# Altium schematic symbol library Schlib1.SchLib: 77 symbols (part 1 of 2)
Pins are listed as number, name and electrical type; pins without a type are passive.

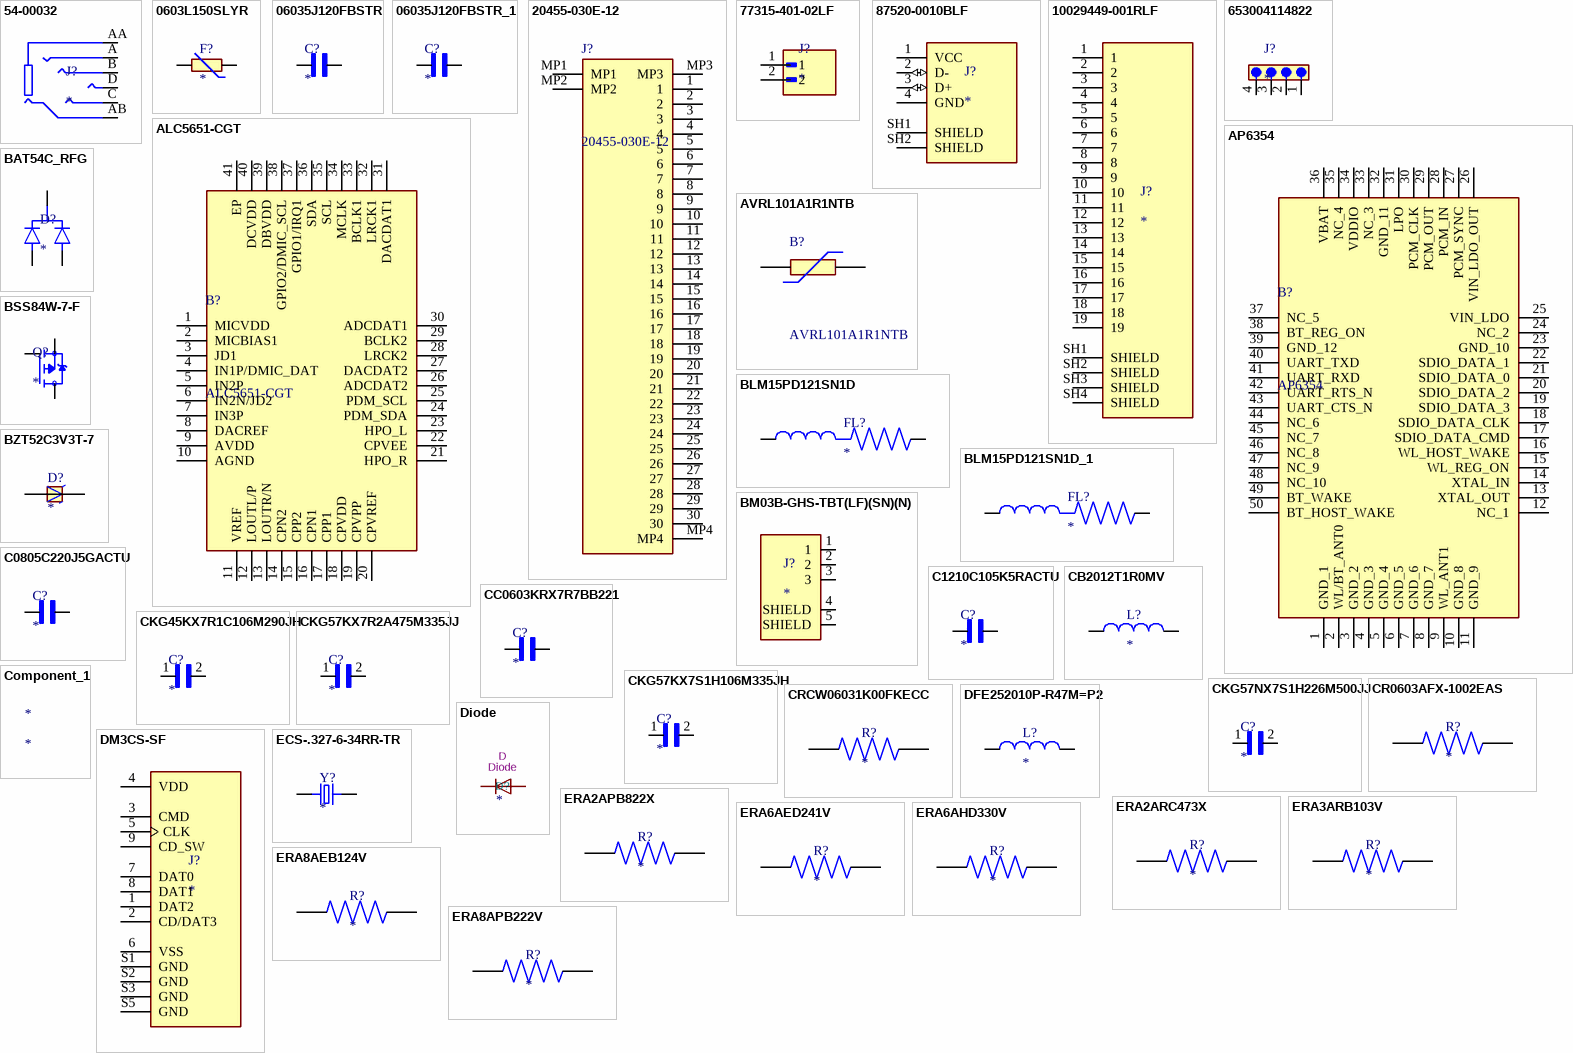
[diagram p0: symbols 54-00032 to ERA8APB222V]

## 54-00032
designator J?
Connector, 6C audio jack, 3.5xL18.6 mm, PCB mount, 90 degrees, Au plated; MF: Tensility International; MP: 54-00032; SnapEDA_Link: https://www.snapeda.com/parts/54-00032/Tensility+International+Corp/view-part/?ref=snap; Package: None; Value: *; Check_prices: https://www.snapeda.com/parts/54-00032/Tensility+International+Corp/view-part/?ref=eda
footprint TENSILITY_54-00032
pins: A, AA, AB, B, C, D

## 0603L150SLYR
designator F?
Polymeric PTC Resettable Fuse 6V 1.5 A Ih Surface Mount 0603 (1608 Metric), Concave; MF: Littelfuse Inc.; MP: 0603L150SLYR; SnapEDA_Link: https://www.snapeda.com/parts/0603L150SLYR/Littelfuse/view-part/?ref=snap; Package: 0603-2 LITTELFUSE; Value: *; Check_prices: https://www.snapeda.com/parts/0603L150SLYR/Littelfuse/view-part/?ref=eda
footprint FUSC1608X100N
pins: 1, 2

## 06035J120FBSTR
designator C?
12 pF Thin Film Capacitor 50 V 0603 (1608 Metric); MF: AVX; MP: 06035J120FBSTR; SnapEDA_Link: https://www.snapeda.com/parts/06035J120FBSTR/AVX/view-part/?ref=snap; Package: 0603-2 AVX; Value: *; Check_prices: https://www.snapeda.com/parts/06035J120FBSTR/AVX/view-part/?ref=eda
footprint CAPC1608X90
pins: 1, 2

## 06035J120FBSTR_1
designator C?
12 pF Thin Film Capacitor 50 V 0603 (1608 Metric); MF: AVX; MP: 06035J120FBSTR; SnapEDA_Link: https://www.snapeda.com/parts/06035J120FBSTR/AVX/view-part/?ref=snap; Package: 0603-2 AVX; Value: *; Check_prices: https://www.snapeda.com/parts/06035J120FBSTR/AVX/view-part/?ref=eda
footprint CAPC1608X90
pins: 1, 2

## 20455-030E-12
designator J?
Board Connector, 30 Contact(s), 1 Row(s), Female, Right Angle, Surface Mount Terminal, Receptacle; Manufacturer_Name: I-Pex; Geometry.Height: 1.1mm; Manufacturer_Part_Number: 20455-030E-12; Mouser Part Number: *; Mouser Price/Stock: *; Arrow Part Number: *; Arrow Price/Stock: *; Datasheet Link: https://www.datasheet5.com/part/20455-030E-12/I-PEX%20Co%20Ltd
footprint 20455030E12
pins: 1, 2, 3, 4, 5, 6, 7, 8, 9, 10, 11, 12, 13, 14, 15, 16, 17, 18, 19, 20, 21, 22, 23, 24, 25, 26, 27, 28, 29, 30, MP1, MP2, MP3, MP4

## 77315-401-02LF
designator J?
MP: 77315-401-02LF; Package: None; Price: None; Value: *; Availability: Unavailable
footprint AMPHENOL_77315-401-02LF
pins: 1, 2

## 87520-0010BLF
designator J?
Conn Data USB TypeA Socket 4Cnts RightAngle ThruHole White 1.57mmPCB | Amphenol FCI (Amphenol CS) 87520-0010BLF; MF: AMPHENOL ICC / FCI; SnapEDA_Link: https://www.snapeda.com/parts/87520-0010BLF/Amphenol/view-part/?ref=snap; Package: None; Value: *; MP: 87520-0010BLF; Check_prices: https://www.snapeda.com/parts/87520-0010BLF/Amphenol/view-part/?ref=eda
footprint AMPHENOL_87520-0010BLF
pins: 1 VCC (power), 2 D- (io), 3 D+ (io), 4 GND (power), SH1 SHIELD, SH2 SHIELD

## 10029449-001RLF
designator J?
MP: 10029449-001RLF; Package: None; Price: None; Value: *; Availability: Unavailable
footprint AMPHENOL_10029449-001RLF
pins: 1, 2, 3, 4, 5, 6, 7, 8, 9, 10, 11, 12, 13, 14, 15, 16, 17, 18, 19, SH1 SHIELD, SH2 SHIELD, SH3 SHIELD, SH4 SHIELD

## 653004114822
designator J?
CONN, HEADER, 4POS, 1ROW, 1.25MM ROHS COMPLIANT: YES; MF: WÃ¼rth Elektronik; MP: 653004114822; SnapEDA_Link: https://www.snapeda.com/parts/653004114822/W%25C3%25BCrth+Elektronik+Midcom/view-part/?ref=snap; Package: None; Value: *; Check_prices: https://www.snapeda.com/parts/653004114822/W%25C3%25BCrth+Elektronik+Midcom/view-part/?ref=eda
footprint 653004114822
pins: 1, 2, 3, 4

## ALC5651-CGT
designator B?
high performance, low power, dual I2 S interface audio CODEC Digital-to-Analog Converter with 100dBA SNR; Manufacturer_Name: Realtek; Geometry.Height: 0.9mm; Manufacturer_Part_Number: ALC5651-CGT; Mouser Part Number: *; Mouser Price/Stock: *; Arrow Part Number: *; Arrow Price/Stock: *; Datasheet Link: https://datasheet.lcsc.com/szlcsc/2001151131_Realtek-Semicon-ALC5651-CGT_C474323.pdf
footprint QFN40P500X500X90-41N-D
pins: 1 MICVDD, 2 MICBIAS1, 3 JD1, 4 IN1P/DMIC_DAT, 5 IN2P, 6 IN2N/JD2, 7 IN3P, 8 DACREF, 9 AVDD, 10 AGND, 11 VREF, 12 LOUTL/P, 13 LOUTR/N, 14 CPN2, 15 CPP2, 16 CPN1, 17 CPP1, 18 CPVDD, 19 CPVPP, 20 CPVREF, 21 HPO_R, 22 CPVEE, 23 HPO_L, 24 PDM_SDA, 25 PDM_SCL, 26 ADCDAT2, 27 DACDAT2, 28 LRCK2, 29 BCLK2, 30 ADCDAT1, 31 DACDAT1, 32 LRCK1, 33 BCLK1, 34 MCLK, 35 SCL, 36 SDA, 37 GPIO1/IRQ1, 38 GPIO2/DMIC_SCL, 39 DBVDD, 40 DCVDD, 41 EP

## AP6354
designator B?
CON; Manufacturer_Name: AMPAK; Geometry.Height: 1.6mm; Manufacturer_Part_Number: AP6354; Mouser Part Number: *; Mouser Price/Stock: *; Arrow Part Number: *; Arrow Price/Stock: *; Datasheet Link: http://www.boardcon.com/download/AP6354_datasheet.pdf
footprint AP6354
pins: 1 GND_1, 2 WL/BT_ANT0, 3 GND_2, 4 GND_3, 5 GND_4, 6 GND_5, 7 GND_6, 8 GND_7, 9 WL_ANT1, 10 GND_8, 11 GND_9, 12 NC_1, 13 XTAL_OUT, 14 XTAL_IN, 15 WL_REG_ON, 16 WL_HOST_WAKE, 17 SDIO_DATA_CMD, 18 SDIO_DATA_CLK, 19 SDIO_DATA_3, 20 SDIO_DATA_2, 21 SDIO_DATA_0, 22 SDIO_DATA_1, 23 GND_10, 24 NC_2, 25 VIN_LDO, 26 VIN_LDO_OUT, 27 PCM_SYNC, 28 PCM_IN, 29 PCM_OUT, 30 PCM_CLK, 31 LPO, 32 GND_11, 33 NC_3, 34 VDDIO, 35 NC_4, 36 VBAT, 37 NC_5, 38 BT_REG_ON, 39 GND_12, 40 UART_TXD, 41 UART_RXD, 42 UART_RTS_N, 43 UART_CTS_N, 44 NC_6, 45 NC_7, 46 NC_8, 47 NC_9, 48 NC_10, 49 BT_WAKE, 50 BT_HOST_WAKE

## AVRL101A1R1NTB
designator B?
Chip Varistors / Ceramic Transient Voltage Suppressors, Maximum continuous voltage [DC]=10V, Capacitance = 1.1pF; Manufacturer_Name: TDK; Geometry.Height: 0.55mm; Manufacturer_Part_Number: AVRL101A1R1NTB; Mouser Part Number: 810-AVRL101A1R1NTB; Mouser Price/Stock: https://www.mouser.co.uk/ProductDetail/TDK/AVRL101A1R1NTB?qs=pr9f6yweEOGaWR8G2rllTw%3D%3D; Arrow Part Number: AVRL101A1R1NTB; Arrow Price/Stock: https://www.arrow.com/en/products/avrl101a1r1ntb/tdk?utm_currency=USD&region=europe; Datasheet Link: https://product.tdk.com/system/files/dam/doc/product/protection/voltage/varistor_ctvs/catalog/vpd_varistors_avr_en.pdf
footprint VARC1005X55N
pins: 1, 2

## BAT54C_RFG
designator D?
SOT-23, 30V, 0.2A, Schottky Diode; MF: Taiwan Semiconductor; MP: BAT54C RF; SnapEDA_Link: https://www.snapeda.com/parts/BAT54C%20RF/Taiwan+Semiconductor/view-part/?ref=snap; Package: SOT-23 Taiwan Semiconductor; Value: *; Check_prices: https://www.snapeda.com/parts/BAT54C%20RF/Taiwan+Semiconductor/view-part/?ref=eda
footprint SOT95P237X112-3N
pins: 1, 2, 3

## BLM15PD121SN1D
designator FL?
120 Ohms @ 100 MHz 1 Power Line Ferrite Bead 0402 (1005 Metric) 1.3A 90mOhm; MF: Murata; MP: BLM15PD121SN1D; SnapEDA_Link: https://www.snapeda.com/parts/BLM15PD121SN1D/Murata/view-part/?ref=snap; Package: 1005 Taiyo Yuden; Value: *; Check_prices: https://www.snapeda.com/parts/BLM15PD121SN1D/Murata/view-part/?ref=eda
footprint BEADC1005X55N
pins: 1, 2

## BLM15PD121SN1D_1
designator FL?
120 Ohms @ 100 MHz 1 Power Line Ferrite Bead 0402 (1005 Metric) 1.3A 90mOhm; MF: Murata; MP: BLM15PD121SN1D; SnapEDA_Link: https://www.snapeda.com/parts/BLM15PD121SN1D/Murata/view-part/?ref=snap; Package: 1005 Taiyo Yuden; Value: *; Check_prices: https://www.snapeda.com/parts/BLM15PD121SN1D/Murata/view-part/?ref=eda
footprint BEADC1005X55N
pins: 1, 2

## BM03B-GHS-TBT(LF)(SN)(N)
designator J?
Connector Header Surface Mount 3 position 0.049 (1.25mm); MF: JST Sales; MP: BM03B-GHS-TBT(LF)(SN)(N); SnapEDA_Link: https://www.snapeda.com/parts/BM03B-GHS-TBT(LF)(SN)(N)/JST/view-part/?ref=snap; Package: None; Value: *; Check_prices: https://www.snapeda.com/parts/BM03B-GHS-TBT(LF)(SN)(N)/JST/view-part/?ref=eda
footprint CONN_BM03B-GHS-TBT(LF)(SN)(N)
pins: 1, 2, 3, 4 SHIELD, 5 SHIELD

## BSS84W-7-F
designator Q?
P-Channel 50 V 130mA (Ta) 200mW (Ta) Surface Mount SOT-323; MP: BSS84W-7-F; MF: Diodes Inc.; SnapEDA_Link: https://www.snapeda.com/parts/BSS84W-7-F/Diodes+Inc./view-part/?ref=snap; Availability: In Stock; Check_prices: https://www.snapeda.com/parts/BSS84W-7-F/Diodes+Inc./view-part/?ref=eda; Price: None; Purchase-URL: https://pricing.snapeda.com/search/part/BSS84W-7-F/?ref=eda; Package: SOT-323 Diodes Inc.; Value: *
footprint SOT65P222X110-3N
pins: 1 G, 2 S, 3 D

## BZT52C3V3T-7
designator D?
3.3V 6% 300mW Zener Diode SOD-523 | Diodes Inc BZT52C3V3T-7; MF: Diodes Inc.; SnapEDA_Link: https://www.snapeda.com/parts/BZT52C3V3T-7/Diodes+Inc./view-part/?ref=snap; Package: SOD-523 Diodes Inc.; Value: *; MP: BZT52C3V3T-7; Check_prices: https://www.snapeda.com/parts/BZT52C3V3T-7/Diodes+Inc./view-part/?ref=eda
footprint SODFL1608X65N
pins: A, C

## C0805C220J5GACTU
designator C?
Capacitor, Ceramic, Cap, 22.0pF, Tol 5%, SMT, 50V, C0G | KEMET C0805C220J5GACTU; SnapEDA_Link: https://www.snapeda.com/parts/C0805C220J5GACTU/KEMET/view-part/?ref=snap; Package: 0805 Kemet; Value: *; MF: KEMET; MP: C0805C220J5GACTU; Check_prices: https://www.snapeda.com/parts/C0805C220J5GACTU/KEMET/view-part/?ref=eda
footprint CAPC2012X140N
pins: 1, 2

## C1210C105K5RACTU
designator C?
Capacitor;Ceramic;Cap;1.00uF;Tol+10%;SMT;Vol-Rtg 50V;High Cap.;X7R;TR | KEMET C1210C105K5RACTU; SnapEDA_Link: https://www.snapeda.com/parts/C1210C105K5RACTU/KEMET/view-part/?ref=snap; Package: 1210-2 KEMET; Value: *; MF: KEMET; MP: C1210C105K5RACTU; Check_prices: https://www.snapeda.com/parts/C1210C105K5RACTU/KEMET/view-part/?ref=eda
footprint CAPC3225X140N
pins: 1, 2

## CB2012T1R0MV
designator L?
1 ÂµH Unshielded Drum Core, Wirewound Inductor 700 mA 195mOhm Max 0805 (2012 Metric); MF: Taiyo Yuden; MP: CB2012T1R0MV; SnapEDA_Link: https://www.snapeda.com/parts/CB2012T1R0MV/Taiyo+Yuden/view-part/?ref=snap; Package: 2012 Taiyo Yuden; Value: *; Check_prices: https://www.snapeda.com/parts/CB2012T1R0MV/Taiyo+Yuden/view-part/?ref=eda
footprint INDC2012X145N
pins: 1, 2

## CC0603KRX7R7BB221
designator C?
220 pF Â±10% 16V Ceramic Capacitor X7R 0603 (1608 Metric); MF: Yageo; MP: CC0603KRX7R7BB221; SnapEDA_Link: https://www.snapeda.com/parts/CC0603KRX7R7BB221/Yageo/view-part/?ref=snap; Package: 0603 Yageo; Value: *; Check_prices: https://www.snapeda.com/parts/CC0603KRX7R7BB221/Yageo/view-part/?ref=eda
footprint CAPC1608X90
pins: 1, 2

## CKG45KX7R1C106M290JH
designator C?
10ÂµF Â±20% 16V Ceramic Capacitor X7R Nonstandard SMD; MF: TDK; MP: CKG45KX7R1C106M290JH; SnapEDA_Link: https://www.snapeda.com/parts/CKG45KX7R1C106M290JH/TDK/view-part/?ref=snap; Package: 5035 TDK; Value: *; Check_prices: https://www.snapeda.com/parts/CKG45KX7R1C106M290JH/TDK/view-part/?ref=eda
footprint CAPC5035X300N
pins: 1, 2

## CKG57KX7R2A475M335JJ
designator C?
CAP CER 4.7UF 100V X7R SMD; MF: TDK; MP: CKG57KX7R2A475M335JJ; Price: None; Purchase-URL: https://pricing.snapeda.com/search/part/CKG57KX7R2A475M335JJ/?ref=eda; SnapEDA_Link: https://www.snapeda.com/parts/CKG57KX7R2A475M335JJ/TDK/view-part/?ref=snap; Availability: In Stock; Value: *; Package: 6050 TDK; Check_prices: https://www.snapeda.com/parts/CKG57KX7R2A475M335JJ/TDK/view-part/?ref=eda
footprint CAPC6050X350N
pins: 1, 2

## CKG57KX7S1H106M335JH
designator C?
10 ÂµF Â±20% 50V Ceramic Capacitor X7S SMD, J-Lead; MF: TDK; MP: CKG57KX7S1H106M335JH; Check_prices: https://www.snapeda.com/parts/CKG57KX7S1H106M335JH/TDK/view-part/?ref=eda; Purchase-URL: https://pricing.snapeda.com/search/part/CKG57KX7S1H106M335JH/?ref=eda; Value: *; SnapEDA_Link: https://www.snapeda.com/parts/CKG57KX7S1H106M335JH/TDK/view-part/?ref=snap; Package: 6050 TDK; Digi-Key_Part_Number: 445-10464-2-ND
footprint CAPC6050X350N
pins: 1, 2

## CKG57NX7S1H226M500JJ
designator C?
22ÂµF Â±20% 50V Ceramic Capacitor X7S Stacked SMD, 2 J-Lead; MP: CKG57NX7S1H226M500JJ; Package: None; Availability: Unavailable; Price: None; Value: *
footprint CAPC6050X550N
pins: 1, 2

## Component_1
designator *

## CR0603AFX-1002EAS
designator R?
Resistor, AS 0603 10k 1% 100mW TC100 | Bourns CR0603AFX-1002EAS; SnapEDA_Link: https://www.snapeda.com/parts/CR0603AFX-1002EAS/Bourns/view-part/?ref=snap; Package: 0603-2 Bourns; Value: *; MF: Bourns; MP: CR0603AFX-1002EAS; Check_prices: https://www.snapeda.com/parts/CR0603AFX-1002EAS/Bourns/view-part/?ref=eda
footprint RESC1608X55N
pins: 1, 2

## CRCW06031K00FKECC
designator R?
1 kOhms Â±1% 0.1W, 1/10W Chip Resistor 0603 (1608 Metric) - Thick Film; MF: Vishay; MP: CRCW06031K00FKECC; SnapEDA_Link: https://www.snapeda.com/parts/CRCW06031K00FKECC/Vishay/view-part/?ref=snap; Package: 0603-2 Vishay; Value: *; Check_prices: https://www.snapeda.com/parts/CRCW06031K00FKECC/Vishay/view-part/?ref=eda
footprint RESC1608X55N
pins: 1, 2

## DFE252010P-R47M=P2
designator L?
INDUCTOR, SHLD, 0.47UH, 20%, 4.1A, 1008; MP: DFE252010P-R47M=P2; Package: None; Price: None; Value: *; Availability: Unavailable
footprint INDC2520X100N
pins: 1, 2

## Diode
designator D?  value Diode  Reference: D
Datasheet: https://diotec.com/de/produktliste/D.html; ki_keywords: Diode; ki_description: Diode
footprint SOD-523 (SMD)
pins: A, K

## DM3CS-SF
designator J?
10 (8 + 2) Position Card Connector Secure Digital - microSDâ„¢ Surface Mount, Right Angle Gold; MF: Hirose Electric Co Ltd; MP: DM3CS-SF; SnapEDA_Link: https://www.snapeda.com/parts/DM3CS-SF/Hirose+Electric+Co+Ltd/view-part/?ref=snap; Package: None; Value: *; Check_prices: https://www.snapeda.com/parts/DM3CS-SF/Hirose+Electric+Co+Ltd/view-part/?ref=eda
footprint HRS_DM3CS-SF
pins: 1 DAT2, 2 CD/DAT3, 3 CMD, 4 VDD, 5 CLK, 6 VSS, 7 DAT0, 8 DAT1, 9 CD_SW, S1 GND, S2 GND, S3 GND, S5 GND

## ECS-.327-6-34RR-TR
designator Y?
32.768kHz 20ppm Crystal 6pF 20 kOhm -40C ~ 85C Surface Mount 2-SMD, No Lead 3.2 x 1.5; MF: ECS Inc.; MP: ECS-.327-6-34RR-TR; SnapEDA_Link: https://www.snapeda.com/parts/ECS-.327-6-34RR-TR/ECS/view-part/?ref=snap; Package: ECX-34RR-34RR-2 ECS; Value: *; Check_prices: https://www.snapeda.com/parts/ECS-.327-6-34RR-TR/ECS/view-part/?ref=eda
footprint XTAL_ECS-.327-6-34RR-TR
pins: 1 I/O, 2 O/I

## ERA2APB822X
designator R?
MP: ERA2APB822X; Price: None; Value: *; Availability: Unavailable; Package: None
footprint RES_ERA2APB822X
pins: 1, 2

## ERA2ARC473X
designator R?
MP: ERA2ARC473X; Value: *; Package: None; Availability: Unavailable; Price: None
footprint RES_ERA2ARC473X
pins: 1, 2

## ERA3ARB103V
designator R?
MP: ERA3ARB103V; Availability: Unavailable; Package: None; Value: *; Price: None
footprint RES_ERA3ARB103V
pins: 1, 2

## ERA6AED241V
designator R?
MP: ERA6AED241V; Value: *; Availability: Unavailable; Price: None; Package: None
footprint RES_ERA6AED241V
pins: 1, 2

## ERA6AHD330V
designator R?
MP: ERA6AHD330V; Package: None; Price: None; Value: *; Availability: Unavailable
footprint RES_ERA6AHD330V
pins: 1, 2

## ERA8AEB124V
designator R?
MP: ERA8AEB124V; Availability: Unavailable; Price: None; Package: None; Value: *
footprint RES_ERA8AEB124V
pins: 1, 2

## ERA8APB222V
designator R?
MP: ERA8APB222V; Availability: Unavailable; Price: None; Package: None; Value: *
footprint RES_ERA8APB222V
pins: 1, 2

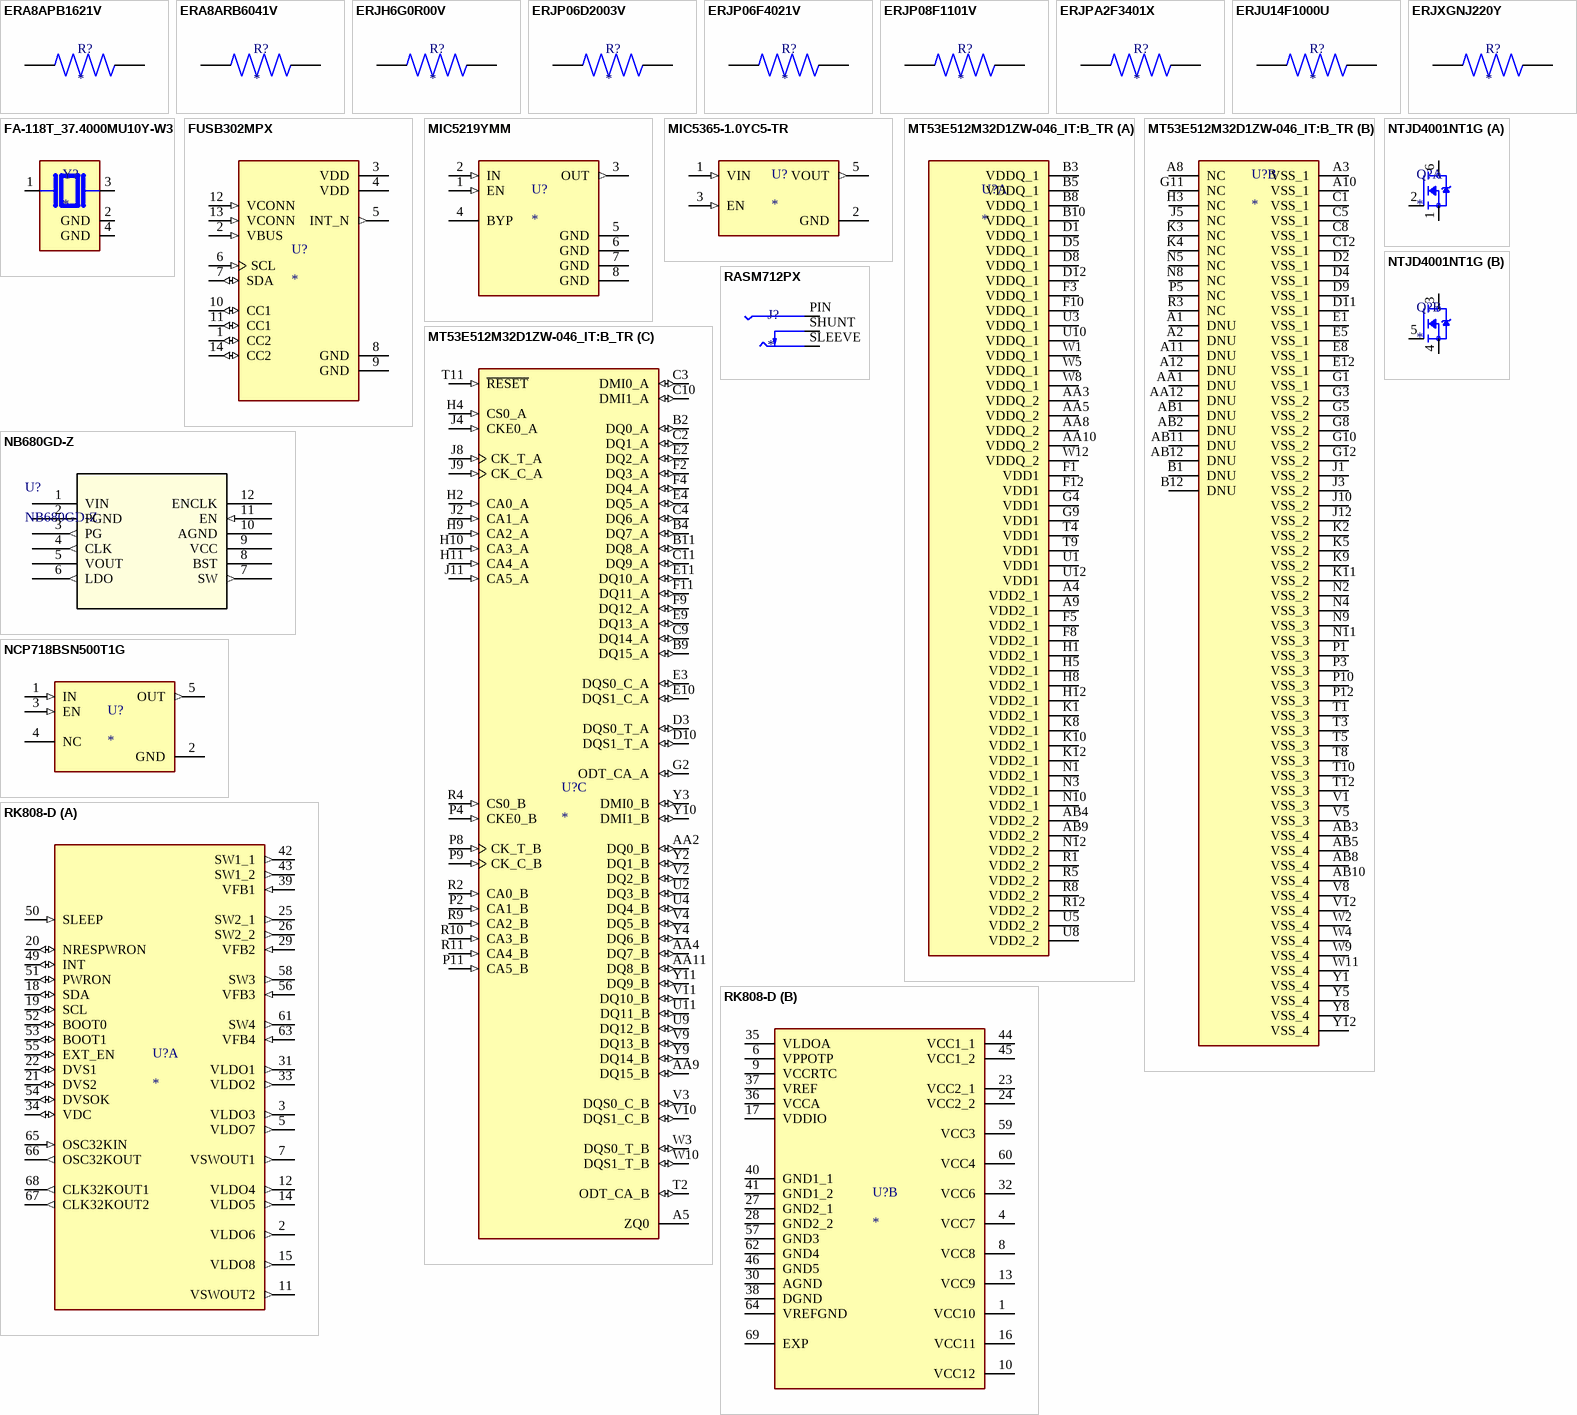
[diagram p1: symbols ERA8APB1621V to RK808-D]

## ERA8APB1621V
designator R?
MP: ERA8APB1621V; Value: *; Price: None; Availability: Unavailable; Package: None
footprint RES_ERA8APB1621V
pins: 1, 2

## ERA8ARB6041V
designator R?
MP: ERA8ARB6041V; Package: None; Value: *; Availability: Unavailable; Price: None
footprint RES_ERA8ARB6041V
pins: 1, 2

## ERJH6G0R00V
designator R?
MP: ERJH6G0R00V; Value: *; Availability: Unavailable; Price: None; Package: None
footprint RES_ERJH6G0R00V
pins: 1, 2

## ERJP06D2003V
designator R?
MP: ERJP06D2003V; Package: None; Value: *; Price: None; Availability: Unavailable
footprint RES_ERJP06D2003V
pins: 1, 2

## ERJP06F4021V
designator R?
MP: ERJP06F4021V; Price: None; Value: *; Availability: Unavailable; Package: None
footprint RES_ERJP06F4021V
pins: 1, 2

## ERJP08F1101V
designator R?
MP: ERJP08F1101V; Package: None; Value: *; Price: None; Availability: Unavailable
footprint RES_ERJP08F1101V
pins: 1, 2

## ERJPA2F3401X
designator R?
MP: ERJPA2F3401X; Package: None; Price: None; Value: *; Availability: Unavailable
footprint RES_ERJPA2F3401X
pins: 1, 2

## ERJU14F1000U
designator R?
MP: ERJU14F1000U; Price: None; Availability: Unavailable; Value: *; Package: None
footprint RES_ERJU14F1000U
pins: 1, 2

## ERJXGNJ220Y
designator R?
MP: ERJXGNJ220Y; Package: None; Price: None; Availability: Unavailable; Value: *
footprint RES_ERJXGNJ220Y
pins: 1, 2

## FA-118T_37.4000MU10Y-W3
designator Y?
Crystals XTL MHZ +/-7PPM+/-10PPM-30 85C 12PF ESR=60 OHM 250TR; MF: EPSON; MP: FA-118T 37.4000MU10Y-W3; Value: *; Price: None; Package: NON STANDARD-4 EPSON; Purchase-URL: https://pricing.snapeda.com/search/part/FA-118T 37.4000MU10Y-W3/?ref=eda; SnapEDA_Link: https://www.snapeda.com/parts/FA-118T%2037.4000MU10Y-W3/EPSON/view-part/?ref=snap; Check_prices: https://www.snapeda.com/parts/FA-118T%2037.4000MU10Y-W3/EPSON/view-part/?ref=eda; Availability: In Stock
footprint XTAL_FA-118T_37.4000MU10Y-W3
pins: 1, 2 GND (power), 3 2, 4 GND (power)

## FUSB302MPX
designator U?
USB Controller USB 3.1 USB Interface 14-MLP (2.5x2.5); MF: ON Semiconductor; MP: FUSB302MPX; SnapEDA_Link: https://www.snapeda.com/parts/FUSB302MPX/Onsemi/view-part/?ref=snap; Package: WFQFN-14 ON Semiconductor; Value: *; Check_prices: https://www.snapeda.com/parts/FUSB302MPX/Onsemi/view-part/?ref=eda
footprint QFN50P250X250X80-15N
pins: 1 CC2 (io), 2 VBUS (in), 3 VDD (power), 4 VDD (power), 5 INT_N (out), 6 SCL (in), 7 SDA (io), 8 GND (power), 9 GND (power), 10 CC1 (io), 11 CC1 (io), 12 VCONN (in), 13 VCONN (in), 14 CC2 (io)

## MIC5219YMM
designator U?
MIC5219 Series 500 mA ADJ Output Voltage Surface Mount LDO Regulator - MSOP-8; MF: Microchip; MP: MIC5219YMM; SnapEDA_Link: https://www.snapeda.com/parts/MIC5219YMM/Microchip+Technology/view-part/?ref=snap; Package: MSOP-8 Microchip; Value: *; Check_prices: https://www.snapeda.com/parts/MIC5219YMM/Microchip+Technology/view-part/?ref=eda
footprint SOP65P490X110-8N
pins: 1 EN (in), 2 IN (in), 3 OUT (out), 4 BYP, 5 GND (power), 6 GND (power), 7 GND (power), 8 GND (power)

## MIC5365-1.0YC5-TR
designator U?
Linear Voltage Regulator IC Positive Fixed 1 Output 150mA SC-70-5; MF: Microchip; MP: MIC5365-1.0YC5-TR; SnapEDA_Link: https://www.snapeda.com/parts/MIC5365-1.0YC5-TR/Microchip+Technology/view-part/?ref=snap; Package: SC-70-5 Microchip; Value: *; Check_prices: https://www.snapeda.com/parts/MIC5365-1.0YC5-TR/Microchip+Technology/view-part/?ref=eda
footprint SOT65P210X110-5N
pins: 1 VIN (in), 2 GND (power), 3 EN (in), 5 VOUT (out)

## MT53E512M32D1ZW-046_IT:B_TR
designator U?
SDRAM - Mobile LPDDR4 Memory IC 16Gbit Parallel 2.133 GHz 3.5 ns 200-TFBGA (10x14.5); MF: Micron Technology; MP: MT53E512M32D1ZW-046 IT:B TR; SnapEDA_Link: https://www.snapeda.com/parts/MT53E512M32D1ZW-046%20IT:B%20TR/Micron/view-part/?ref=snap; Package: None; Value: *; Check_prices: https://www.snapeda.com/parts/MT53E512M32D1ZW-046%20IT:B%20TR/Micron/view-part/?ref=eda
footprint BGA200C65X80P22X12_1500X1000X114N
part A pins: A4 VDD2_1 (power), A9 VDD2_1 (power), AA3 VDDQ_2 (power), AA5 VDDQ_2 (power), AA8 VDDQ_2 (power), AA10 VDDQ_2 (power), AB4 VDD2_2 (power), AB9 VDD2_2 (power), B3 VDDQ_1 (power), B5 VDDQ_1 (power), B8 VDDQ_1 (power), B10 VDDQ_1 (power), D1 VDDQ_1 (power), D5 VDDQ_1 (power), D8 VDDQ_1 (power), D12 VDDQ_1 (power), F1 VDD1 (power), F3 VDDQ_1 (power), F5 VDD2_1 (power), F8 VDD2_1 (power), F10 VDDQ_1 (power), F12 VDD1 (power), G4 VDD1 (power), G9 VDD1 (power), H1 VDD2_1 (power), H5 VDD2_1 (power), H8 VDD2_1 (power), H12 VDD2_1 (power), K1 VDD2_1 (power), K8 VDD2_1 (power), K10 VDD2_1 (power), K12 VDD2_1 (power), N1 VDD2_1 (power), N3 VDD2_1 (power), N10 VDD2_1 (power), N12 VDD2_2 (power), R1 VDD2_2 (power), R5 VDD2_2 (power), R8 VDD2_2 (power), R12 VDD2_2 (power), T4 VDD1 (power), T9 VDD1 (power), U1 VDD1 (power), U3 VDDQ_1 (power), U5 VDD2_2 (power), U8 VDD2_2 (power), U10 VDDQ_1 (power), U12 VDD1 (power), W1 VDDQ_1 (power), W5 VDDQ_1 (power), W8 VDDQ_1 (power), W12 VDDQ_2 (power)
part B pins: A1 DNU, A2 DNU, A3 VSS_1 (power), A8 NC, A10 VSS_1 (power), A11 DNU, A12 DNU, AA1 DNU, AA12 DNU, AB1 DNU, AB2 DNU, AB3 VSS_4 (power), AB5 VSS_4 (power), AB8 VSS_4 (power), AB10 VSS_4 (power), AB11 DNU, AB12 DNU, B1 DNU, B12 DNU, C1 VSS_1 (power), C5 VSS_1 (power), C8 VSS_1 (power), C12 VSS_1 (power), D2 VSS_1 (power), D4 VSS_1 (power), D9 VSS_1 (power), D11 VSS_1 (power), E1 VSS_1 (power), E5 VSS_1 (power), E8 VSS_1 (power), E12 VSS_1 (power), G1 VSS_1 (power), G3 VSS_2 (power), G5 VSS_2 (power), G8 VSS_2 (power), G10 VSS_2 (power), G11 NC, G12 VSS_2 (power), H3 NC, J1 VSS_2 (power), J3 VSS_2 (power), J5 NC, J10 VSS_2 (power), J12 VSS_2 (power), K2 VSS_2 (power), K3 NC, K4 NC, K5 VSS_2 (power), K9 VSS_2 (power), K11 VSS_2 (power), N2 VSS_2 (power), N4 VSS_3 (power), N5 NC, N8 NC, N9 VSS_3 (power), N11 VSS_3 (power), P1 VSS_3 (power), P3 VSS_3 (power), P5 NC, P10 VSS_3 (power), P12 VSS_3 (power), R3 NC, T1 VSS_3 (power), T3 VSS_3 (power), T5 VSS_3 (power), T8 VSS_3 (power), T10 VSS_3 (power), T12 VSS_3 (power), V1 VSS_3 (power), V5 VSS_3 (power), V8 VSS_4 (power), V12 VSS_4 (power), W2 VSS_4 (power), W4 VSS_4 (power), W9 VSS_4 (power), W11 VSS_4 (power), Y1 VSS_4 (power), Y5 VSS_4 (power), Y8 VSS_4 (power), Y12 VSS_4 (power)
part C pins: A5 ZQ0, AA2 DQ0_B (io), AA4 DQ7_B (io), AA9 DQ15_B (io), AA11 DQ8_B (io), B2 DQ0_A (io), B4 DQ7_A (io), B9 DQ15_A (io), B11 DQ8_A (io), C2 DQ1_A (io), C3 DMI0_A (io), C4 DQ6_A (io), C9 DQ14_A (io), C10 DMI1_A (io), C11 DQ9_A (io), D3 DQS0_T_A (io), D10 DQS1_T_A (io), E2 DQ2_A (io), E3 DQS0_C_A (io), E4 DQ5_A (io), E9 DQ13_A (io), E10 DQS1_C_A (io), E11 DQ10_A (io), F2 DQ3_A (io), F4 DQ4_A (io), F9 DQ12_A (io), F11 DQ11_A (io), G2 ODT_CA_A (io), H2 CA0_A (in), H4 CS0_A (in), H9 CA2_A (in), H10 CA3_A (in), H11 CA4_A (in), J2 CA1_A (in), J4 CKE0_A (in), J8 CK_T_A (in), J9 CK_C_A (in), J11 CA5_A (in), P2 CA1_B (in), P4 CKE0_B (in), P8 CK_T_B (in), P9 CK_C_B (in), P11 CA5_B (in), R2 CA0_B (in), R4 CS0_B (in), R9 CA2_B (in), R10 CA3_B (in), R11 CA4_B (in), T2 ODT_CA_B (io), T11 ~{RESET} (in), U2 DQ3_B (io), U4 DQ4_B (io), U9 DQ12_B (io), U11 DQ11_B (io), V2 DQ2_B (io), V3 DQS0_C_B (io), V4 DQ5_B (io), V9 DQ13_B (io), V10 DQS1_C_B (io), V11 DQ10_B (io), W3 DQS0_T_B (io), W10 DQS1_T_B (io), Y2 DQ1_B (io), Y3 DMI0_B (io), Y4 DQ6_B (io), Y9 DQ14_B (io), Y10 DMI1_B (io), Y11 DQ9_B (io)

## NB680GD-Z
designator U?
Wide Vin 4.8-26V Low Iq High Current Fixed 3.3V-8A Synchronous Buck Converter with 100mA LDO; Manufacturer_Name: Monolithic Power Systems; Copyright: Copyright (C) 2026 Ultra Librarian. All rights reserved.; Manufacturer_Part_Number: NB680GD-Z; Datasheet: https://www.monolithicpower.com/en/documentview/productdocument/index/version/2/document_type/Datasheet/lang/en/sku/NB680; RefDes: RefDes; Type: Type
footprint QFN-12_NB680_MNP
pins: 1 VIN (power), 2 PGND (power), 3 PG (out), 4 CLK (out), 5 VOUT (power), 6 LDO (out), 7 SW (out), 8 BST (power), 9 VCC (power), 10 AGND (power), 11 EN (in), 12 ENCLK

## NCP718BSN500T1G
designator U?
Linear Voltage Regulator IC Positive Fixed 1 Output 300mA TSOT-23-5; MF: ON Semiconductor; MP: NCP718BSN500T1G; SnapEDA_Link: https://www.snapeda.com/parts/NCP718BSN500T1G/Onsemi/view-part/?ref=snap; Package: TSOT-23-5 ON Semiconductor; Value: *; Check_prices: https://www.snapeda.com/parts/NCP718BSN500T1G/Onsemi/view-part/?ref=eda
footprint SOT95P280X100-5N
pins: 1 IN (in), 2 GND (power), 3 EN (in), 4 NC, 5 OUT (out)

## NTJD4001NT1G
designator Q?
Mosfet Array 2 N-Channel (Dual) 30V 250mA 272mW Surface Mount SC-88/SC70-6/SOT-363; MF: ON Semiconductor; MP: NTJD4001NT1G; SnapEDA_Link: https://www.snapeda.com/parts/NTJD4001NT1G/Onsemi/view-part/?ref=snap; Package: SC-88-6 ON Semiconductor; Value: *; Check_prices: https://www.snapeda.com/parts/NTJD4001NT1G/Onsemi/view-part/?ref=eda
footprint SOT65P210X110-6N
part A pins: 1 S1, 2 G1, 6 D1
part B pins: 3 D2, 4 S2, 5 G2

## RASM712PX
designator J?
Conn;AV;DC,Power;Jack;2.5mmPinSize;RtAngle;DCSeries;SMTMount | Switchcraft RASM712PX; MF: Switchcraft Inc.; SnapEDA_Link: https://www.snapeda.com/parts/RASM712PX/SWITCHCRAFT/view-part/?ref=snap; Package: None; Value: *; MP: RASM712PX; Check_prices: https://www.snapeda.com/parts/RASM712PX/SWITCHCRAFT/view-part/?ref=eda
footprint SWITCHCRAFT_RASM712PX
pins: PIN, SHUNT, SLEEVE

## RK808-D
designator U?
RK808-D Power Management IC; MF: rockchip; SnapEDA_Link: https://www.snapeda.com/parts/RK808-D/Rockchip/view-part/?ref=snap; Package: None; Value: *; MP: RK808-D; Check_prices: https://www.snapeda.com/parts/RK808-D/Rockchip/view-part/?ref=eda
footprint QFN35P700X700X80-69N
part A pins: 2 VLDO6 (out), 3 VLDO3 (out), 5 VLDO7 (out), 7 VSWOUT1 (out), 11 VSWOUT2 (out), 12 VLDO4 (out), 14 VLDO5 (out), 15 VLDO8 (out), 18 SDA (io), 19 SCL (io), 20 NRESPWRON (io), 21 DVS2 (io), 22 DVS1 (io), 25 SW2_1 (out), 26 SW2_2 (out), 29 VFB2 (in), 31 VLDO1 (out), 33 VLDO2 (out), 34 VDC (io), 39 VFB1 (in), 42 SW1_1 (out), 43 SW1_2 (out), 49 INT (io), 50 SLEEP (in), 51 PWRON (io), 52 BOOT0 (io), 53 BOOT1 (io), 54 DVSOK (io), 55 EXT_EN (io), 56 VFB3 (in), 58 SW3 (out), 61 SW4 (out), 63 VFB4 (in), 65 OSC32KIN (in), 66 OSC32KOUT (out), 67 CLK32KOUT2 (out), 68 CLK32KOUT1 (out)
part B pins: 1 VCC10 (power), 4 VCC7 (power), 6 VPPOTP (power), 8 VCC8 (power), 9 VCCRTC (power), 10 VCC12 (power), 13 VCC9 (power), 16 VCC11 (power), 17 VDDIO (power), 23 VCC2_1 (power), 24 VCC2_2 (power), 27 GND2_1 (power), 28 GND2_2 (power), 30 AGND (power), 32 VCC6 (power), 35 VLDOA (power), 36 VCCA (power), 37 VREF (power), 38 DGND (power), 40 GND1_1 (power), 41 GND1_2 (power), 44 VCC1_1 (power), 45 VCC1_2 (power), 46 GND5 (power), 57 GND3 (power), 59 VCC3 (power), 60 VCC4 (power), 62 GND4 (power), 64 VREFGND (power), 69 EXP (power)

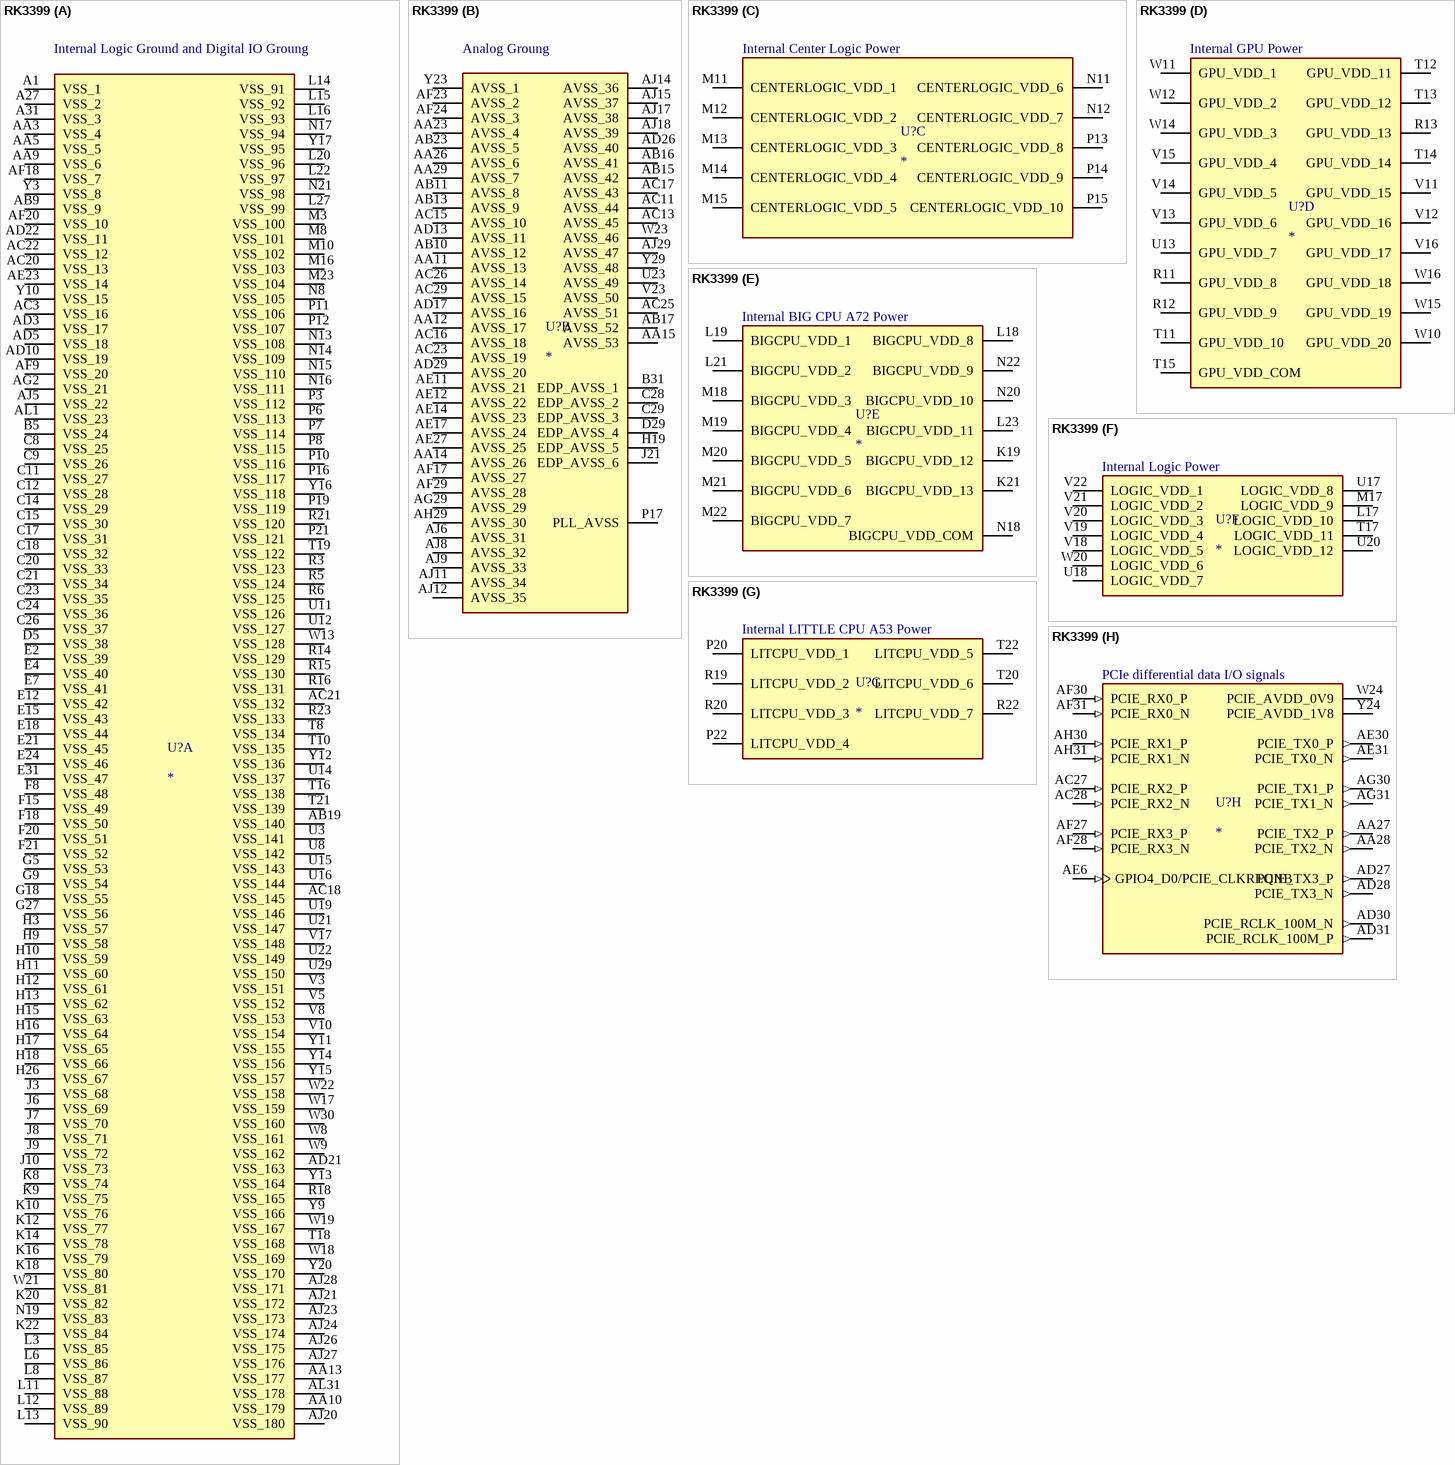
[diagram p2: symbol RK3399]

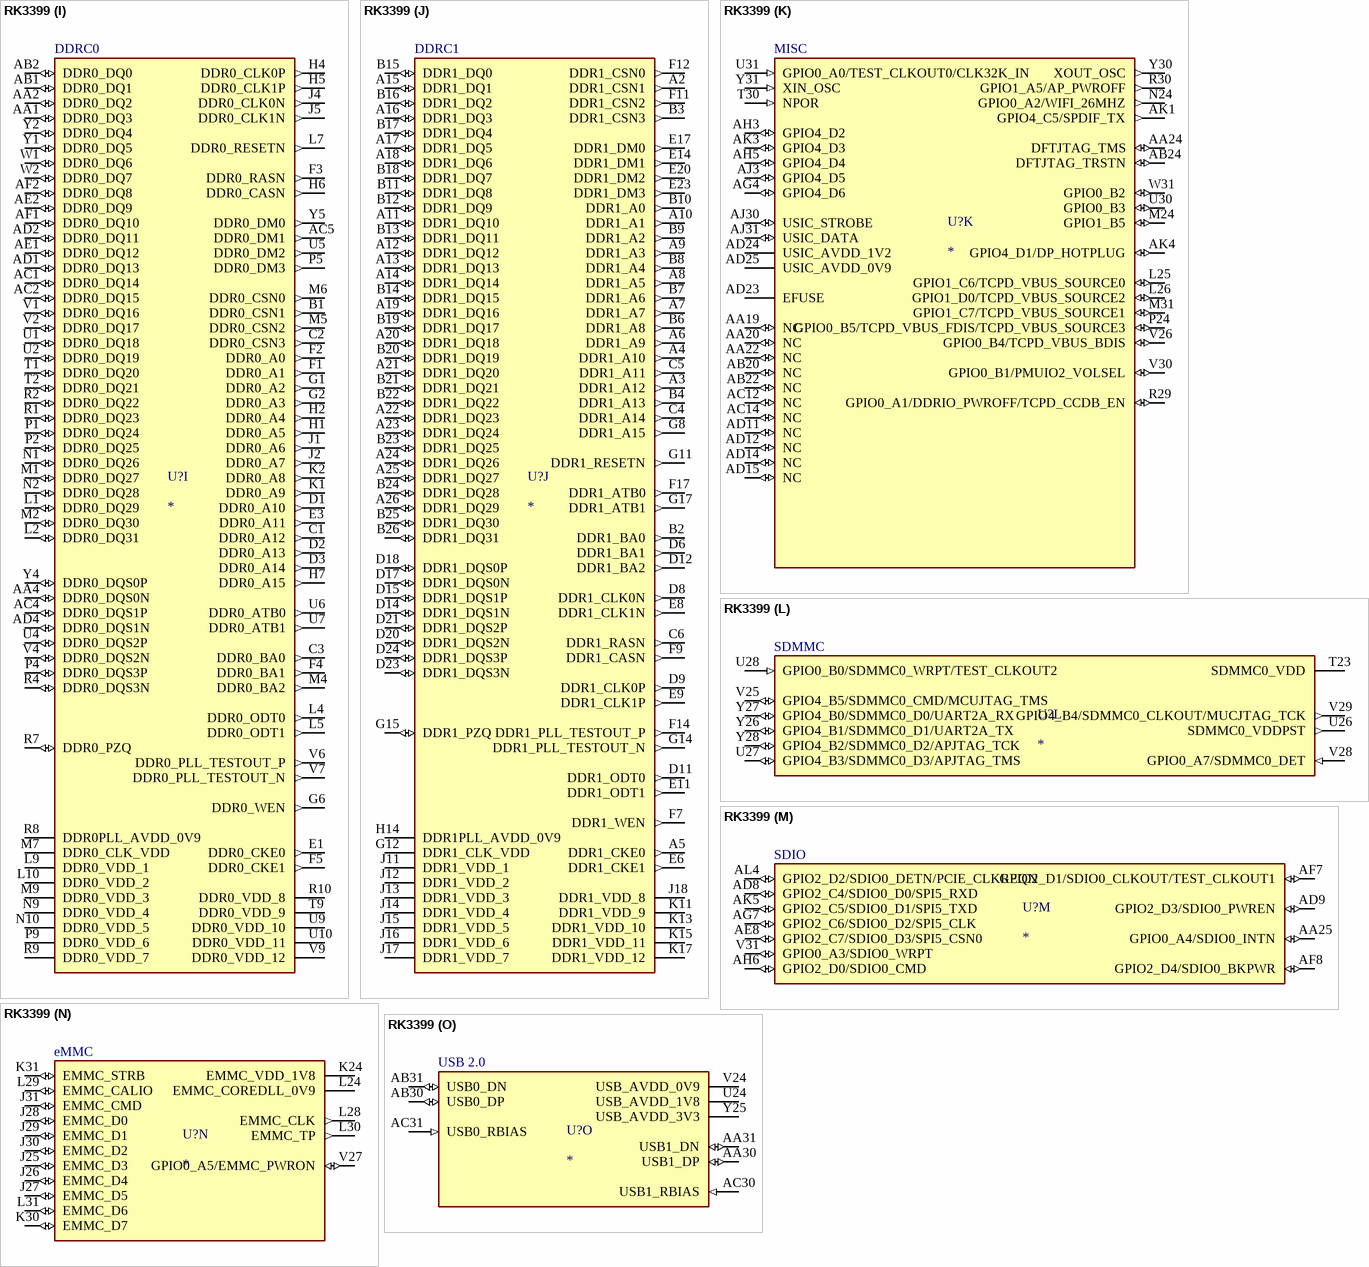
[diagram p3: symbol RK3399]

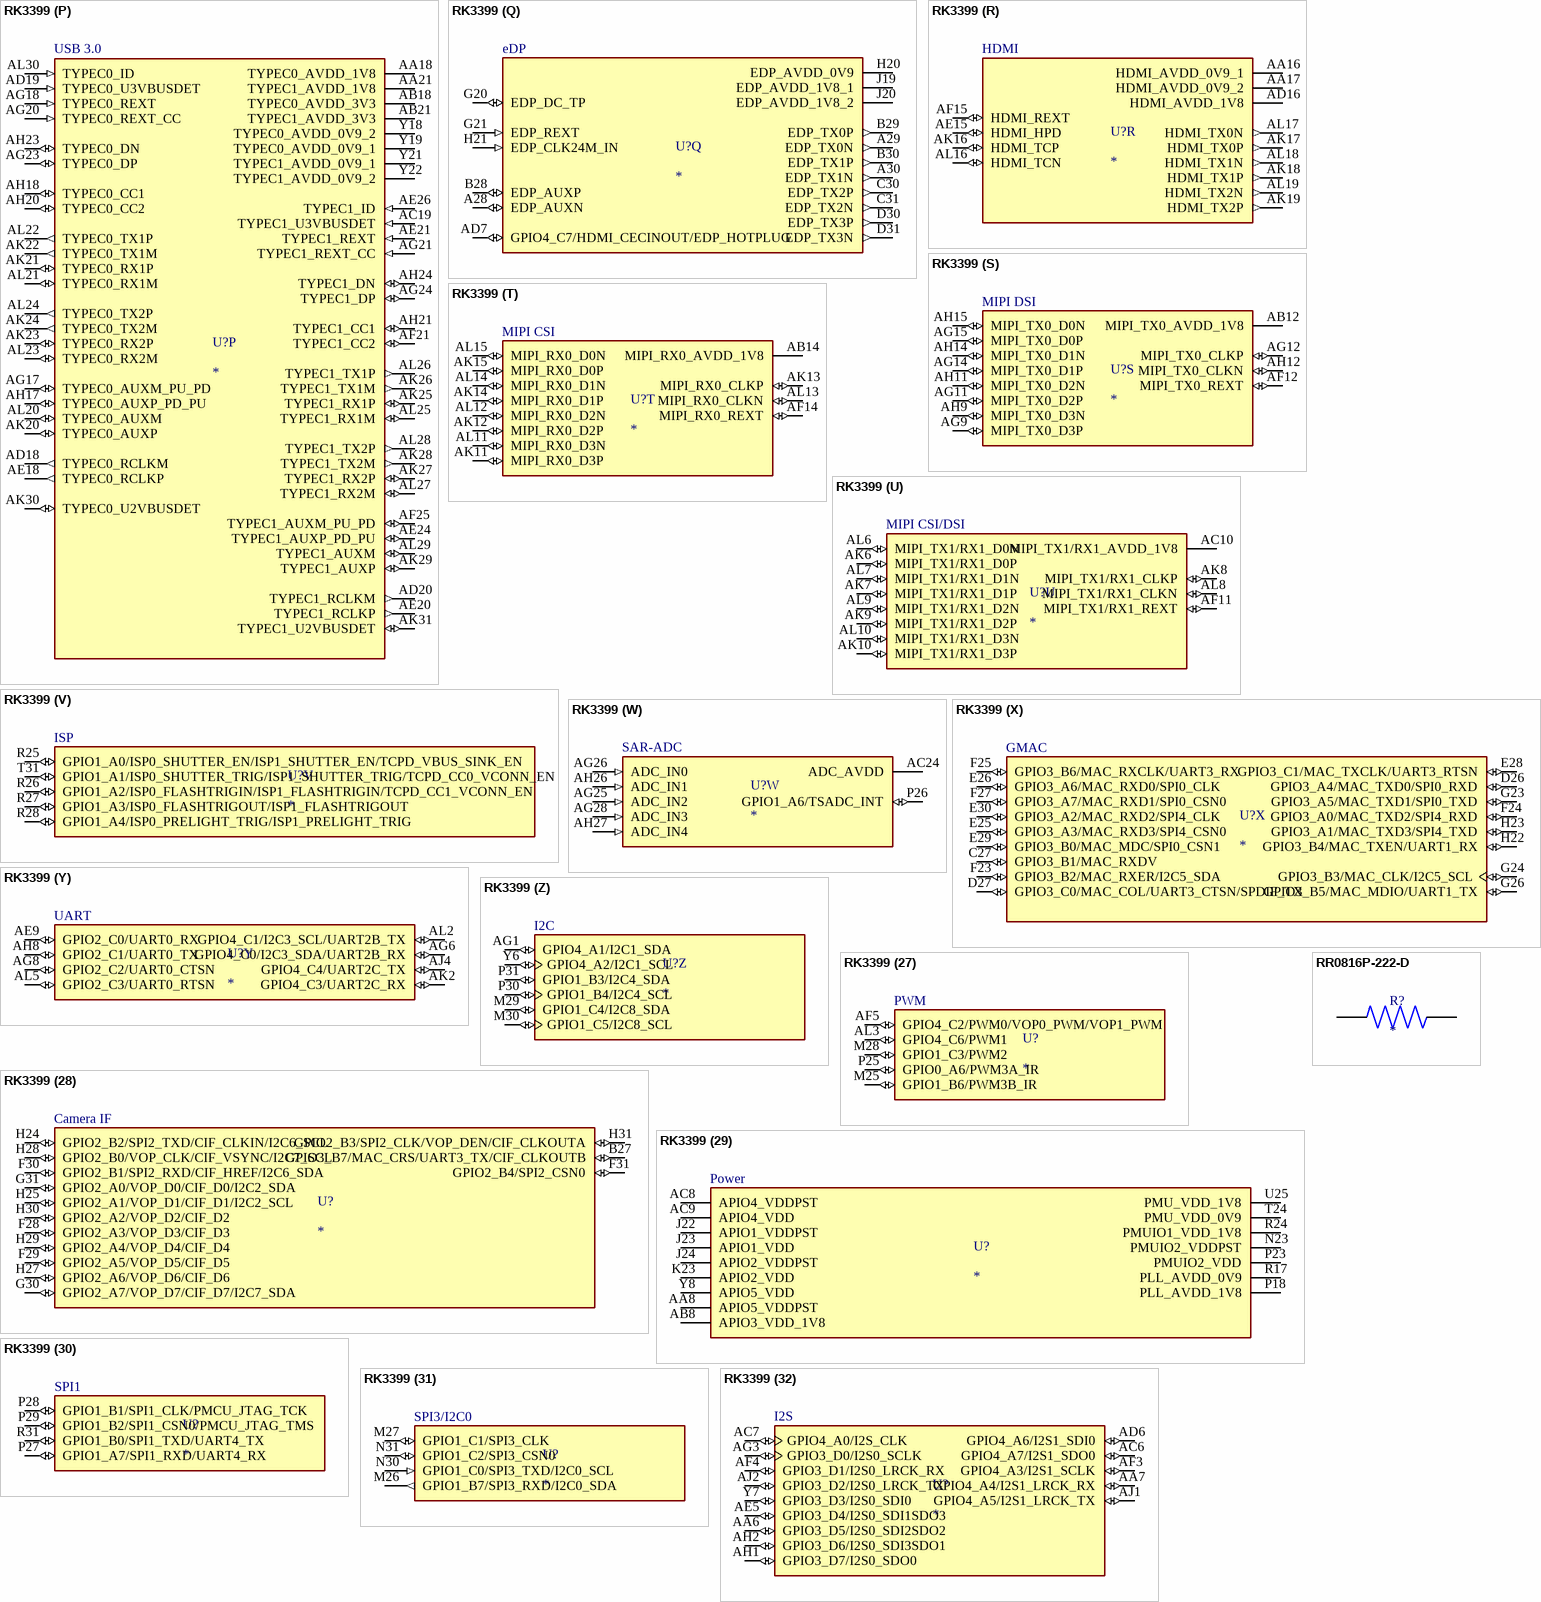
[diagram p4: symbols RK3399 to RR0816P-222-D]

## RK3399
designator U?
RK3399 ROCK Pi 4 Model A 2GB - ARMÂ® CortexÂ®-A53, CortexÂ®-A72 MPU Embedded Evaluation Board; MF: Rockchip; SnapEDA_Link: https://www.snapeda.com/parts/RK3399/Fuzhou+Rockchip+Electronics+Co/view-part/?ref=snap; Package: Seeed Technology; MP: RK3399; Check_prices: https://www.snapeda.com/parts/RK3399/Fuzhou+Rockchip+Electronics+Co/view-part/?ref=eda; Price: None; Value: *; Availability: Not in stock
footprint BGA828C65P31X31_2100X2100X161N
part A pins: A1 VSS_1 (power), A27 VSS_2 (power), A31 VSS_3 (power), AA3 VSS_4 (power), AA5 VSS_5 (power), AA9 VSS_6 (power), AA10 VSS_179 (power), AA13 VSS_177 (power), AB9 VSS_9 (power), AB19 VSS_140 (power), AC3 VSS_16 (power), AC18 VSS_145 (power), AC20 VSS_13 (power), AC21 VSS_132 (power), AC22 VSS_12 (power), AD3 VSS_17 (power), AD5 VSS_18 (power), AD10 VSS_19 (power), AD21 VSS_163 (power), AD22 VSS_11 (power), AE23 VSS_14 (power), AF9 VSS_20 (power), AF18 VSS_7 (power), AF20 VSS_10 (power), AG2 VSS_21 (power), AJ5 VSS_22 (power), AJ20 VSS_180 (power), AJ21 VSS_172 (power), AJ23 VSS_173 (power), AJ24 VSS_174 (power), AJ26 VSS_175 (power), AJ27 VSS_176 (power), AJ28 VSS_171 (power), AL1 VSS_23 (power), AL31 VSS_178 (power), B5 VSS_24 (power), C8 VSS_25 (power), C9 VSS_26 (power), C11 VSS_27 (power), C12 VSS_28 (power), C14 VSS_29 (power), C15 VSS_30 (power), C17 VSS_31 (power), C18 VSS_32 (power), C20 VSS_33 (power), C21 VSS_34 (power), C23 VSS_35 (power), C24 VSS_36 (power), C26 VSS_37 (power), D5 VSS_38 (power), E2 VSS_39 (power), E4 VSS_40 (power), E7 VSS_41 (power), E12 VSS_42 (power), E15 VSS_43 (power), E18 VSS_44 (power), E21 VSS_45 (power), E24 VSS_46 (power), E31 VSS_47 (power), F8 VSS_48 (power), F15 VSS_49 (power), F18 VSS_50 (power), F20 VSS_51 (power), F21 VSS_52 (power), G5 VSS_53 (power), G9 VSS_54 (power), G18 VSS_55 (power), G27 VSS_56 (power), H3 VSS_57 (power), H9 VSS_58 (power), H10 VSS_59 (power), H11 VSS_60 (power), H12 VSS_61 (power), H13 VSS_62 (power), H15 VSS_63 (power), H16 VSS_64 (power), H17 VSS_65 (power), H18 VSS_66 (power), H26 VSS_67 (power), J3 VSS_68 (power), J6 VSS_69 (power), J7 VSS_70 (power), J8 VSS_71 (power), J9 VSS_72 (power), J10 VSS_73 (power), K8 VSS_74 (power), K9 VSS_75 (power), K10 VSS_76 (power), K12 VSS_77 (power), K14 VSS_78 (power), K16 VSS_79 (power), K18 VSS_80 (power), K20 VSS_82 (power), K22 VSS_84 (power), L3 VSS_85 (power), L6 VSS_86 (power), L8 VSS_87 (power), L11 VSS_88 (power), L12 VSS_89 (power), L13 VSS_90 (power), L14 VSS_91 (power), L15 VSS_92 (power), L16 VSS_93 (power), L20 VSS_96 (power), L22 VSS_97 (power), L27 VSS_99 (power), M3 VSS_100 (power), M8 VSS_101 (power), M10 VSS_102 (power), M16 VSS_103 (power), M23 VSS_104 (power), N8 VSS_105 (power), N13 VSS_108 (power), N14 VSS_109 (power), N15 VSS_110 (power), N16 VSS_111 (power), N17 VSS_94 (power), N19 VSS_83 (power), N21 VSS_98 (power), P3 VSS_112 (power), P6 VSS_113 (power), P7 VSS_114 (power), P8 VSS_115 (power), P10 VSS_116 (power), P11 VSS_106 (power), P12 VSS_107 (power), P16 VSS_117 (power), P19 VSS_119 (power), P21 VSS_121 (power), R3 VSS_123 (power), R5 VSS_124 (power), R6 VSS_125 (power), R14 VSS_129 (power), R15 VSS_130 (power), R16 VSS_131 (power), R18 VSS_165 (power), R21 VSS_120 (power), R23 VSS_133 (power), T8 VSS_134 (power), T10 VSS_135 (power), T16 VSS_138 (power), T18 VSS_168 (power), T19 VSS_122 (power), T21 VSS_139 (power), U3 VSS_141 (power), U8 VSS_142 (power), U11 VSS_126 (power), U12 VSS_127 (power), U14 VSS_137 (power), U15 VSS_143 (power), U16 VSS_144 (power), U19 VSS_146 (power), U21 VSS_147 (power), U22 VSS_149 (power), U29 VSS_150 (power), V3 VSS_151 (power), V5 VSS_152 (power), V8 VSS_153 (power), V10 VSS_154 (power), V17 VSS_148 (power), W8 VSS_161 (power), W9 VSS_162 (power), W13 VSS_128 (power), W17 VSS_159 (power), W18 VSS_169 (power), W19 VSS_167 (power), W21 VSS_81 (power), W22 VSS_158 (power), W30 VSS_160 (power), Y3 VSS_8 (power), Y9 VSS_166 (power), Y10 VSS_15 (power), Y11 VSS_155 (power), Y12 VSS_136 (power), Y13 VSS_164 (power), Y14 VSS_156 (power), Y15 VSS_157 (power), Y16 VSS_118 (power), Y17 VSS_95 (power), Y20 VSS_170 (power)
part B pins: AA11 AVSS_13 (power), AA12 AVSS_17 (power), AA14 AVSS_26 (power), AA15 AVSS_53 (power), AA23 AVSS_4 (power), AA26 AVSS_6 (power), AA29 AVSS_7 (power), AB10 AVSS_12 (power), AB11 AVSS_8 (power), AB13 AVSS_9 (power), AB15 AVSS_42 (power), AB16 AVSS_41 (power), AB17 AVSS_52 (power), AB23 AVSS_5 (power), AC11 AVSS_44 (power), AC13 AVSS_45 (power), AC15 AVSS_10 (power), AC16 AVSS_18 (power), AC17 AVSS_43 (power), AC23 AVSS_19 (power), AC25 AVSS_51 (power), AC26 AVSS_14 (power), AC29 AVSS_15 (power), AD13 AVSS_11 (power), AD17 AVSS_16 (power), AD26 AVSS_40 (power), AD29 AVSS_20 (power), AE11 AVSS_21 (power), AE12 AVSS_22 (power), AE14 AVSS_23 (power), AE17 AVSS_24 (power), AE27 AVSS_25 (power), AF17 AVSS_27 (power), AF23 AVSS_2 (power), AF24 AVSS_3 (power), AF29 AVSS_28 (power), AG29 AVSS_29 (power), AH29 AVSS_30 (power), AJ6 AVSS_31 (power), AJ8 AVSS_32 (power), AJ9 AVSS_33 (power), AJ11 AVSS_34 (power), AJ12 AVSS_35 (power), AJ14 AVSS_36 (power), AJ15 AVSS_37 (power), AJ17 AVSS_38 (power), AJ18 AVSS_39 (power), AJ29 AVSS_47 (power), B31 EDP_AVSS_1 (power), C28 EDP_AVSS_2 (power), C29 EDP_AVSS_3 (power), D29 EDP_AVSS_4 (power), H19 EDP_AVSS_5 (power), J21 EDP_AVSS_6 (power), P17 PLL_AVSS (power), U23 AVSS_49 (power), V23 AVSS_50 (power), W23 AVSS_46 (power), Y23 AVSS_1 (power), Y29 AVSS_48 (power)
part C pins: M11 CENTERLOGIC_VDD_1 (power), M12 CENTERLOGIC_VDD_2 (power), M13 CENTERLOGIC_VDD_3 (power), M14 CENTERLOGIC_VDD_4 (power), M15 CENTERLOGIC_VDD_5 (power), N11 CENTERLOGIC_VDD_6 (power), N12 CENTERLOGIC_VDD_7 (power), P13 CENTERLOGIC_VDD_8 (power), P14 CENTERLOGIC_VDD_9 (power), P15 CENTERLOGIC_VDD_10 (power)
part D pins: R11 GPU_VDD_8 (power), R12 GPU_VDD_9 (power), R13 GPU_VDD_13 (power), T11 GPU_VDD_10 (power), T12 GPU_VDD_11 (power), T13 GPU_VDD_12 (power), T14 GPU_VDD_14 (power), T15 GPU_VDD_COM (power), U13 GPU_VDD_7 (power), V11 GPU_VDD_15 (power), V12 GPU_VDD_16 (power), V13 GPU_VDD_6 (power), V14 GPU_VDD_5 (power), V15 GPU_VDD_4 (power), V16 GPU_VDD_17 (power), W10 GPU_VDD_20 (power), W11 GPU_VDD_1 (power), W12 GPU_VDD_2 (power), W14 GPU_VDD_3 (power), W15 GPU_VDD_19 (power), W16 GPU_VDD_18 (power)
part E pins: K19 BIGCPU_VDD_12 (power), K21 BIGCPU_VDD_13 (power), L18 BIGCPU_VDD_8 (power), L19 BIGCPU_VDD_1 (power), L21 BIGCPU_VDD_2 (power), L23 BIGCPU_VDD_11 (power), M18 BIGCPU_VDD_3 (power), M19 BIGCPU_VDD_4 (power), M20 BIGCPU_VDD_5 (power), M21 BIGCPU_VDD_6 (power), M22 BIGCPU_VDD_7 (power), N18 BIGCPU_VDD_COM (power), N20 BIGCPU_VDD_10 (power), N22 BIGCPU_VDD_9 (power)
part F pins: L17 LOGIC_VDD_10 (power), M17 LOGIC_VDD_9 (power), T17 LOGIC_VDD_11 (power), U17 LOGIC_VDD_8 (power), U18 LOGIC_VDD_7 (power), U20 LOGIC_VDD_12 (power), V18 LOGIC_VDD_5 (power), V19 LOGIC_VDD_4 (power), V20 LOGIC_VDD_3 (power), V21 LOGIC_VDD_2 (power), V22 LOGIC_VDD_1 (power), W20 LOGIC_VDD_6 (power)
part G pins: P20 LITCPU_VDD_1 (power), P22 LITCPU_VDD_4 (power), R19 LITCPU_VDD_2 (power), R20 LITCPU_VDD_3 (power), R22 LITCPU_VDD_7 (power), T20 LITCPU_VDD_6 (power), T22 LITCPU_VDD_5 (power)
part H pins: AA27 PCIE_TX2_P (out), AA28 PCIE_TX2_N (out), AC27 PCIE_RX2_P (in), AC28 PCIE_RX2_N (in), AD27 PCIE_TX3_P (out), AD28 PCIE_TX3_N (out), AD30 PCIE_RCLK_100M_N (out), AD31 PCIE_RCLK_100M_P (out), AE6 GPIO4_D0/PCIE_CLKREQNB (in), AE30 PCIE_TX0_P (out), AE31 PCIE_TX0_N (out), AF27 PCIE_RX3_P (in), AF28 PCIE_RX3_N (in), AF30 PCIE_RX0_P (in), AF31 PCIE_RX0_N (in), AG30 PCIE_TX1_P (out), AG31 PCIE_TX1_N (out), AH30 PCIE_RX1_P (in), AH31 PCIE_RX1_N (in), W24 PCIE_AVDD_0V9 (power), Y24 PCIE_AVDD_1V8 (power)
part I pins: AA1 DDR0_DQ3 (io), AA2 DDR0_DQ2 (io), AA4 DDR0_DQS0N (io), AB1 DDR0_DQ1 (io), AB2 DDR0_DQ0 (io), AC1 DDR0_DQ14 (io), AC2 DDR0_DQ15 (io), AC4 DDR0_DQS1P (io), AC5 DDR0_DM1 (out), AD1 DDR0_DQ13 (io), AD2 DDR0_DQ11 (io), AD4 DDR0_DQS1N (io), AE1 DDR0_DQ12 (io), AE2 DDR0_DQ9 (io), AF1 DDR0_DQ10 (io), AF2 DDR0_DQ8 (io), B1 DDR0_CSN1 (out), C1 DDR0_A12 (out), C2 DDR0_CSN3 (out), C3 DDR0_BA0 (out), D1 DDR0_A10 (out), D2 DDR0_A13 (out), D3 DDR0_A14 (out), E1 DDR0_CKE0 (out), E3 DDR0_A11 (out), F1 DDR0_A1 (out), F2 DDR0_A0 (out), F3 DDR0_RASN (out), F4 DDR0_BA1 (out), F5 DDR0_CKE1 (out), G1 DDR0_A2 (out), G2 DDR0_A3 (out), G6 DDR0_WEN (out), H1 DDR0_A5 (out), H2 DDR0_A4 (out), H4 DDR0_CLK0P (out), H5 DDR0_CLK1P (out), H6 DDR0_CASN (out), H7 DDR0_A15 (out), J1 DDR0_A6 (out), J2 DDR0_A7 (out), J4 DDR0_CLK0N (out), J5 DDR0_CLK1N (out), K1 DDR0_A9 (out), K2 DDR0_A8 (out), L1 DDR0_DQ29 (io), L2 DDR0_DQ31 (io), L4 DDR0_ODT0 (out), L5 DDR0_ODT1 (out), L7 DDR0_RESETN (out), L9 DDR0_VDD_1 (power), L10 DDR0_VDD_2 (power), M1 DDR0_DQ27 (io), M2 DDR0_DQ30 (io), M4 DDR0_BA2 (out), M5 DDR0_CSN2 (out), M6 DDR0_CSN0 (out), M7 DDR0_CLK_VDD (power), M9 DDR0_VDD_3 (power), N1 DDR0_DQ26 (io), N2 DDR0_DQ28 (io), N9 DDR0_VDD_4 (power), N10 DDR0_VDD_5 (power), P1 DDR0_DQ24 (io), P2 DDR0_DQ25 (io), P4 DDR0_DQS3P (io), P5 DDR0_DM3 (out), P9 DDR0_VDD_6 (power), R1 DDR0_DQ23 (io), R2 DDR0_DQ22 (io), R4 DDR0_DQS3N (io), R7 DDR0_PZQ (io), R8 DDR0PLL_AVDD_0V9 (power), R9 DDR0_VDD_7 (power), R10 DDR0_VDD_8 (power), T1 DDR0_DQ20 (io), T2 DDR0_DQ21 (io), T9 DDR0_VDD_9 (power), U1 DDR0_DQ18 (io), U2 DDR0_DQ19 (io), U4 DDR0_DQS2P (io), U5 DDR0_DM2 (out), U6 DDR0_ATB0 (out), U7 DDR0_ATB1 (out), U9 DDR0_VDD_10 (power), U10 DDR0_VDD_11 (power), V1 DDR0_DQ16 (io), V2 DDR0_DQ17 (io), V4 DDR0_DQS2N (io), V6 DDR0_PLL_TESTOUT_P (out), V7 DDR0_PLL_TESTOUT_N (out), V9 DDR0_VDD_12 (power), W1 DDR0_DQ6 (io), W2 DDR0_DQ7 (io), Y1 DDR0_DQ5 (io), Y2 DDR0_DQ4 (io), Y4 DDR0_DQS0P (io), Y5 DDR0_DM0 (out)
part J pins: A2 DDR1_CSN1 (out), A3 DDR1_A12 (out), A4 DDR1_A10 (out), A5 DDR1_CKE0 (out), A6 DDR1_A9 (out), A7 DDR1_A7 (out), A8 DDR1_A5 (out), A9 DDR1_A3 (out), A10 DDR1_A1 (out), A11 DDR1_DQ10 (io), A12 DDR1_DQ12 (io), A13 DDR1_DQ13 (io), A14 DDR1_DQ14 (io), A15 DDR1_DQ1 (io), A16 DDR1_DQ3 (io), A17 DDR1_DQ5 (io), A18 DDR1_DQ6 (io), A19 DDR1_DQ16 (io), A20 DDR1_DQ18 (io), A21 DDR1_DQ20 (io), A22 DDR1_DQ23 (io), A23 DDR1_DQ24 (io), A24 DDR1_DQ26 (io), A25 DDR1_DQ27 (io), A26 DDR1_DQ29 (io), B2 DDR1_BA0 (out), B3 DDR1_CSN3 (out), B4 DDR1_A13 (out), B6 DDR1_A8 (out), B7 DDR1_A6 (out), B8 DDR1_A4 (out), B9 DDR1_A2 (out), B10 DDR1_A0 (out), B11 DDR1_DQ8 (io), B12 DDR1_DQ9 (io), B13 DDR1_DQ11 (io), B14 DDR1_DQ15 (io), B15 DDR1_DQ0 (io), B16 DDR1_DQ2 (io), B17 DDR1_DQ4 (io), B18 DDR1_DQ7 (io), B19 DDR1_DQ17 (io), B20 DDR1_DQ19 (io), B21 DDR1_DQ21 (io), B22 DDR1_DQ22 (io), B23 DDR1_DQ25 (io), B24 DDR1_DQ28 (io), B25 DDR1_DQ30 (io), B26 DDR1_DQ31 (io), C4 DDR1_A14 (out), C5 DDR1_A11 (out), C6 DDR1_RASN (out), D6 DDR1_BA1 (out), D8 DDR1_CLK0N (out), D9 DDR1_CLK0P (out), D11 DDR1_ODT0 (out), D12 DDR1_BA2 (out), D14 DDR1_DQS1N (io), D15 DDR1_DQS1P (io), D17 DDR1_DQS0N (io), D18 DDR1_DQS0P (io), D20 DDR1_DQS2N (io), D21 DDR1_DQS2P (io), D23 DDR1_DQS3N (io), D24 DDR1_DQS3P (io), E6 DDR1_CKE1 (out), E8 DDR1_CLK1N (out), E9 DDR1_CLK1P (out), E11 DDR1_ODT1 (out), E14 DDR1_DM1 (out), E17 DDR1_DM0 (out), E20 DDR1_DM2 (out), E23 DDR1_DM3 (out), F7 DDR1_WEN (out), F9 DDR1_CASN (out), F11 DDR1_CSN2 (out), F12 DDR1_CSN0 (out), F14 DDR1_PLL_TESTOUT_P (out), F17 DDR1_ATB0 (out), G8 DDR1_A15 (out), G11 DDR1_RESETN (out), G12 DDR1_CLK_VDD (power), G14 DDR1_PLL_TESTOUT_N (out), G15 DDR1_PZQ (io), G17 DDR1_ATB1 (out), H14 DDR1PLL_AVDD_0V9 (power), J11 DDR1_VDD_1 (power), J12 DDR1_VDD_2 (power), J13 DDR1_VDD_3 (power), J14 DDR1_VDD_4 (power), J15 DDR1_VDD_5 (power), J16 DDR1_VDD_6 (power), J17 DDR1_VDD_7 (power), J18 DDR1_VDD_8 (power), K11 DDR1_VDD_9 (power), K13 DDR1_VDD_10 (power), K15 DDR1_VDD_11 (power), K17 DDR1_VDD_12 (power)
part K pins: AA19 NC (io), AA20 NC (io), AA22 NC (io), AA24 DFTJTAG_TMS (io), AB20 NC (io), AB22 NC (io), AB24 DFTJTAG_TRSTN (io), AC12 NC (io), AC14 NC (io), AD11 NC (io), AD12 NC (io), AD14 NC (io), AD15 NC (io), AD23 EFUSE, AD24 USIC_AVDD_1V2 (power), AD25 USIC_AVDD_0V9 (power), AG4 GPIO4_D6 (io), AH3 GPIO4_D2 (io), AH5 GPIO4_D4 (io), AJ3 GPIO4_D5 (io), AJ30 USIC_STROBE (io), AJ31 USIC_DATA (io), AK1 GPIO4_C5/SPDIF_TX (out), AK3 GPIO4_D3 (io), AK4 GPIO4_D1/DP_HOTPLUG (io), L25 GPIO1_C6/TCPD_VBUS_SOURCE0 (io), L26 GPIO1_D0/TCPD_VBUS_SOURCE2 (io), M24 GPIO1_B5 (io), M31 GPIO1_C7/TCPD_VBUS_SOURCE1 (io), N24 GPIO0_A2/WIFI_26MHZ (out), P24 GPIO0_B5/TCPD_VBUS_FDIS/TCPD_VBUS_SOURCE3 (io), R29 GPIO0_A1/DDRIO_PWROFF/TCPD_CCDB_EN (io), R30 GPIO1_A5/AP_PWROFF (out), T30 NPOR (in), U30 GPIO0_B3 (io), U31 GPIO0_A0/TEST_CLKOUT0/CLK32K_IN (in), V26 GPIO0_B4/TCPD_VBUS_BDIS (io), V30 GPIO0_B1/PMUIO2_VOLSEL (io), W31 GPIO0_B2 (io), Y30 XOUT_OSC (out), Y31 XIN_OSC (in)
part L pins: T23 SDMMC0_VDD (power), U26 SDMMC0_VDDPST (out), U27 GPIO4_B3/SDMMC0_D3/APJTAG_TMS (io), U28 GPIO0_B0/SDMMC0_WRPT/TEST_CLKOUT2 (in), V25 GPIO4_B5/SDMMC0_CMD/MCUJTAG_TMS (io), V28 GPIO0_A7/SDMMC0_DET (in), V29 GPIO4_B4/SDMMC0_CLKOUT/MUCJTAG_TCK (out), Y26 GPIO4_B1/SDMMC0_D1/UART2A_TX (io), Y27 GPIO4_B0/SDMMC0_D0/UART2A_RX (io), Y28 GPIO4_B2/SDMMC0_D2/APJTAG_TCK (io)
part M pins: AA25 GPIO0_A4/SDIO0_INTN (io), AD8 GPIO2_C4/SDIO0_D0/SPI5_RXD (io), AD9 GPIO2_D3/SDIO0_PWREN (io), AE8 GPIO2_C7/SDIO0_D3/SPI5_CSN0 (io), AF7 GPIO2_D1/SDIO0_CLKOUT/TEST_CLKOUT1 (io), AF8 GPIO2_D4/SDIO0_BKPWR (io), AG7 GPIO2_C6/SDIO0_D2/SPI5_CLK (io), AH6 GPIO2_D0/SDIO0_CMD (io), AK5 GPIO2_C5/SDIO0_D1/SPI5_TXD (io), AL4 GPIO2_D2/SDIO0_DETN/PCIE_CLKREQN (io), V31 GPIO0_A3/SDIO0_WRPT (io)
part N pins: J25 EMMC_D3 (io), J26 EMMC_D4 (io), J27 EMMC_D5 (io), J28 EMMC_D0 (io), J29 EMMC_D1 (io), J30 EMMC_D2 (io), J31 EMMC_CMD (io), K24 EMMC_VDD_1V8 (power), K30 EMMC_D7 (io), K31 EMMC_STRB (io), L24 EMMC_COREDLL_0V9 (power), L28 EMMC_CLK (out), L29 EMMC_CALIO (io), L30 EMMC_TP (out), L31 EMMC_D6 (io), V27 GPIO0_A5/EMMC_PWRON (io)
part O pins: AA30 USB1_DP (io), AA31 USB1_DN (io), AB30 USB0_DP (io), AB31 USB0_DN (io), AC30 USB1_RBIAS (in), AC31 USB0_RBIAS (in), U24 USB_AVDD_1V8 (power), V24 USB_AVDD_0V9 (power), Y25 USB_AVDD_3V3 (power)
part P pins: AA18 TYPEC0_AVDD_1V8 (power), AA21 TYPEC1_AVDD_1V8 (power), AB18 TYPEC0_AVDD_3V3 (power), AB21 TYPEC1_AVDD_3V3 (power), AC19 TYPEC1_U3VBUSDET (in), AD18 TYPEC0_RCLKM (out), AD19 TYPEC0_U3VBUSDET (in), AD20 TYPEC1_RCLKM (out), AE18 TYPEC0_RCLKP (out), AE20 TYPEC1_RCLKP (out), AE21 TYPEC1_REXT (in), AE24 TYPEC1_AUXP_PD_PU (io), AE26 TYPEC1_ID (in), AF21 TYPEC1_CC2 (io), AF25 TYPEC1_AUXM_PU_PD (io), AG17 TYPEC0_AUXM_PU_PD (io), AG18 TYPEC0_REXT (in), AG20 TYPEC0_REXT_CC (in), AG21 TYPEC1_REXT_CC (in), AG23 TYPEC0_DP (io), AG24 TYPEC1_DP (io), AH17 TYPEC0_AUXP_PD_PU (io), AH18 TYPEC0_CC1 (io), AH20 TYPEC0_CC2 (io), AH21 TYPEC1_CC1 (io), AH23 TYPEC0_DN (io), AH24 TYPEC1_DN (io), AK20 TYPEC0_AUXP (io), AK21 TYPEC0_RX1P (io), AK22 TYPEC0_TX1M (out), AK23 TYPEC0_RX2P (io), AK24 TYPEC0_TX2M (out), AK25 TYPEC1_RX1P (io), AK26 TYPEC1_TX1M (out), AK27 TYPEC1_RX2P (io), AK28 TYPEC1_TX2M (out), AK29 TYPEC1_AUXP (io), AK30 TYPEC0_U2VBUSDET (io), AK31 TYPEC1_U2VBUSDET (io), AL20 TYPEC0_AUXM (io), AL21 TYPEC0_RX1M (io), AL22 TYPEC0_TX1P (out), AL23 TYPEC0_RX2M (io), AL24 TYPEC0_TX2P (out), AL25 TYPEC1_RX1M (io), AL26 TYPEC1_TX1P (out), AL27 TYPEC1_RX2M (io), AL28 TYPEC1_TX2P (out), AL29 TYPEC1_AUXM (io), AL30 TYPEC0_ID (in), Y18 TYPEC0_AVDD_0V9_2 (power), Y19 TYPEC0_AVDD_0V9_1 (power), Y21 TYPEC1_AVDD_0V9_1 (power), Y22 TYPEC1_AVDD_0V9_2 (power)
part Q pins: A28 EDP_AUXN (io), A29 EDP_TX0N (out), A30 EDP_TX1N (out), AD7 GPIO4_C7/HDMI_CECINOUT/EDP_HOTPLUG (io), B28 EDP_AUXP (io), B29 EDP_TX0P (out), B30 EDP_TX1P (out), C30 EDP_TX2P (out), C31 EDP_TX2N (out), D30 EDP_TX3P (out), D31 EDP_TX3N (out), G20 EDP_DC_TP (io), G21 EDP_REXT (in), H20 EDP_AVDD_0V9 (power), H21 EDP_CLK24M_IN (in), J19 EDP_AVDD_1V8_1 (power), J20 EDP_AVDD_1V8_2 (power)
part R pins: AA16 HDMI_AVDD_0V9_1 (power), AA17 HDMI_AVDD_0V9_2 (power), AD16 HDMI_AVDD_1V8 (power), AE15 HDMI_HPD (io), AF15 HDMI_REXT (io), AK16 HDMI_TCP (io), AK17 HDMI_TX0P (out), AK18 HDMI_TX1P (out), AK19 HDMI_TX2P (out), AL16 HDMI_TCN (io), AL17 HDMI_TX0N (out), AL18 HDMI_TX1N (out), AL19 HDMI_TX2N (out)
part S pins: AB12 MIPI_TX0_AVDD_1V8 (power), AF12 MIPI_TX0_REXT (io), AG9 MIPI_TX0_D3P (io), AG11 MIPI_TX0_D2P (io), AG12 MIPI_TX0_CLKP (io), AG14 MIPI_TX0_D1P (io), AG15 MIPI_TX0_D0P (io), AH9 MIPI_TX0_D3N (io), AH11 MIPI_TX0_D2N (io), AH12 MIPI_TX0_CLKN (io), AH14 MIPI_TX0_D1N (io), AH15 MIPI_TX0_D0N (io)
part T pins: AB14 MIPI_RX0_AVDD_1V8 (power), AF14 MIPI_RX0_REXT (io), AK11 MIPI_RX0_D3P (io), AK12 MIPI_RX0_D2P (io), AK13 MIPI_RX0_CLKP (io), AK14 MIPI_RX0_D1P (io), AK15 MIPI_RX0_D0P (io), AL11 MIPI_RX0_D3N (io), AL12 MIPI_RX0_D2N (io), AL13 MIPI_RX0_CLKN (io), AL14 MIPI_RX0_D1N (io), AL15 MIPI_RX0_D0N (io)
part U pins: AC10 MIPI_TX1/RX1_AVDD_1V8 (power), AF11 MIPI_TX1/RX1_REXT (io), AK6 MIPI_TX1/RX1_D0P (io), AK7 MIPI_TX1/RX1_D1P (io), AK8 MIPI_TX1/RX1_CLKP (io), AK9 MIPI_TX1/RX1_D2P (io), AK10 MIPI_TX1/RX1_D3P (io), AL6 MIPI_TX1/RX1_D0N (io), AL7 MIPI_TX1/RX1_D1N (io), AL8 MIPI_TX1/RX1_CLKN (io), AL9 MIPI_TX1/RX1_D2N (io), AL10 MIPI_TX1/RX1_D3N (io)
part V pins: R25 GPIO1_A0/ISP0_SHUTTER_EN/ISP1_SHUTTER_EN/TCPD_VBUS_SINK_EN (io), R26 GPIO1_A2/ISP0_FLASHTRIGIN/ISP1_FLASHTRIGIN/TCPD_CC1_VCONN_EN (io), R27 GPIO1_A3/ISP0_FLASHTRIGOUT/ISP1_FLASHTRIGOUT (io), R28 GPIO1_A4/ISP0_PRELIGHT_TRIG/ISP1_PRELIGHT_TRIG (io), T31 GPIO1_A1/ISP0_SHUTTER_TRIG/ISP1_SHUTTER_TRIG/TCPD_CC0_VCONN_EN (io)
part W pins: AC24 ADC_AVDD (power), AG25 ADC_IN2 (in), AG26 ADC_IN0 (in), AG28 ADC_IN3 (in), AH26 ADC_IN1 (in), AH27 ADC_IN4 (in), P26 GPIO1_A6/TSADC_INT (io)
part X pins: C27 GPIO3_B1/MAC_RXDV (io), D26 GPIO3_A4/MAC_TXD0/SPI0_RXD (io), D27 GPIO3_C0/MAC_COL/UART3_CTSN/SPDIF_TX (io), E25 GPIO3_A3/MAC_RXD3/SPI4_CSN0 (io), E26 GPIO3_A6/MAC_RXD0/SPI0_CLK (io), E28 GPIO3_C1/MAC_TXCLK/UART3_RTSN (io), E29 GPIO3_B0/MAC_MDC/SPI0_CSN1 (io), E30 GPIO3_A2/MAC_RXD2/SPI4_CLK (io), F23 GPIO3_B2/MAC_RXER/I2C5_SDA (io), F24 GPIO3_A0/MAC_TXD2/SPI4_RXD (io), F25 GPIO3_B6/MAC_RXCLK/UART3_RX (io), F27 GPIO3_A7/MAC_RXD1/SPI0_CSN0 (io), G23 GPIO3_A5/MAC_TXD1/SPI0_TXD (io), G24 GPIO3_B3/MAC_CLK/I2C5_SCL (io), G26 GPIO3_B5/MAC_MDIO/UART1_TX (io), H22 GPIO3_B4/MAC_TXEN/UART1_RX (io), H23 GPIO3_A1/MAC_TXD3/SPI4_TXD (io)
part Y pins: AE9 GPIO2_C0/UART0_RX (io), AG6 GPIO4_C0/I2C3_SDA/UART2B_RX (io), AG8 GPIO2_C2/UART0_CTSN (io), AH8 GPIO2_C1/UART0_TX (io), AJ4 GPIO4_C4/UART2C_TX (io), AK2 GPIO4_C3/UART2C_RX (io), AL2 GPIO4_C1/I2C3_SCL/UART2B_TX (io), AL5 GPIO2_C3/UART0_RTSN (io)
part Z pins: AG1 GPIO4_A1/I2C1_SDA (io), M29 GPIO1_C4/I2C8_SDA (io), M30 GPIO1_C5/I2C8_SCL (io), P30 GPIO1_B4/I2C4_SCL (io), P31 GPIO1_B3/I2C4_SDA (io), Y6 GPIO4_A2/I2C1_SCL (io)
part 27 pins: AF5 GPIO4_C2/PWM0/VOP0_PWM/VOP1_PWM (io), AL3 GPIO4_C6/PWM1 (io), M25 GPIO1_B6/PWM3B_IR (io), M28 GPIO1_C3/PWM2 (io), P25 GPIO0_A6/PWM3A_IR (io)
part 28 pins: B27 GPIO3_B7/MAC_CRS/UART3_TX/CIF_CLKOUTB (io), F28 GPIO2_A3/VOP_D3/CIF_D3 (io), F29 GPIO2_A5/VOP_D5/CIF_D5 (io), F30 GPIO2_B1/SPI2_RXD/CIF_HREF/I2C6_SDA (io), F31 GPIO2_B4/SPI2_CSN0 (io), G30 GPIO2_A7/VOP_D7/CIF_D7/I2C7_SDA (io), G31 GPIO2_A0/VOP_D0/CIF_D0/I2C2_SDA (io), H24 GPIO2_B2/SPI2_TXD/CIF_CLKIN/I2C6_SCL (io), H25 GPIO2_A1/VOP_D1/CIF_D1/I2C2_SCL (io), H27 GPIO2_A6/VOP_D6/CIF_D6 (io), H28 GPIO2_B0/VOP_CLK/CIF_VSYNC/I2C7_SCL (io), H29 GPIO2_A4/VOP_D4/CIF_D4 (io), H30 GPIO2_A2/VOP_D2/CIF_D2 (io), H31 GPIO2_B3/SPI2_CLK/VOP_DEN/CIF_CLKOUTA (io)
part 29 pins: AA8 APIO5_VDDPST (power), AB8 APIO3_VDD_1V8 (power), AC8 APIO4_VDDPST (power), AC9 APIO4_VDD (power), J22 APIO1_VDDPST (power), J23 APIO1_VDD (power), J24 APIO2_VDDPST (power), K23 APIO2_VDD (power), N23 PMUIO2_VDDPST (power), P18 PLL_AVDD_1V8 (power), P23 PMUIO2_VDD (power), R17 PLL_AVDD_0V9 (power), R24 PMUIO1_VDD_1V8 (power), T24 PMU_VDD_0V9 (power), U25 PMU_VDD_1V8 (power), Y8 APIO5_VDD (power)
part 30 pins: P27 GPIO1_A7/SPI1_RXD/UART4_RX (io), P28 GPIO1_B1/SPI1_CLK/PMCU_JTAG_TCK (io), P29 GPIO1_B2/SPI1_CSN0/PMCU_JTAG_TMS (io), R31 GPIO1_B0/SPI1_TXD/UART4_TX (io)
part 31 pins: M26 GPIO1_B7/SPI3_RXD/I2C0_SDA (out), M27 GPIO1_C1/SPI3_CLK (io), N30 GPIO1_C0/SPI3_TXD/I2C0_SCL (in), N31 GPIO1_C2/SPI3_CSN0 (io)
part 32 pins: AA6 GPIO3_D5/I2S0_SDI2SDO2 (io), AA7 GPIO4_A4/I2S1_LRCK_RX (io), AC6 GPIO4_A7/I2S1_SDO0 (io), AC7 GPIO4_A0/I2S_CLK (io), AD6 GPIO4_A6/I2S1_SDI0 (io), AE5 GPIO3_D4/I2S0_SDI1SDO3 (io), AF3 GPIO4_A3/I2S1_SCLK (io), AF4 GPIO3_D1/I2S0_LRCK_RX (io), AG3 GPIO3_D0/I2S0_SCLK (io), AH1 GPIO3_D7/I2S0_SDO0 (io), AH2 GPIO3_D6/I2S0_SDI3SDO1 (io), AJ1 GPIO4_A5/I2S1_LRCK_TX (io), AJ2 GPIO3_D2/I2S0_LRCK_TX (io), Y7 GPIO3_D3/I2S0_SDI0 (io)
part A text: Internal Logic Ground and Digital IO Groung
part B text: Analog Groung
part C text: Internal Center Logic Power
part D text: Internal GPU Power
part E text: Internal BIG CPU A72 Power
part F text: Internal Logic Power
part G text: Internal LITTLE CPU A53 Power
part H text: PCIe differential data I/O signals
part I text: DDRC0
part J text: DDRC1
part K text: MISC
part L text: SDMMC
part M text: SDIO
part N text: eMMC
part O text: USB 2.0
part P text: USB 3.0
part Q text: eDP
part R text: HDMI
part S text: MIPI DSI
part T text: MIPI CSI
part U text: MIPI CSI/DSI
part V text: ISP
part W text: SAR-ADC
part X text: GMAC
part Y text: UART
part Z text: I2C
part 27 text: PWM
part 28 text: Camera IF
part 29 text: Power
part 30 text: SPI1
part 31 text: SPI3/I2C0
part 32 text: I2S

## RR0816P-222-D
designator R?
RR Series 0603 0.0625 W 2.2 kOhm Â± 0.5% Â±25 ppm/Â°C SMT Metal Film Chip Resistor; MF: Susumu; MP: RR0816P-222-D; SnapEDA_Link: https://www.snapeda.com/parts/RR0816P-222-D/Susumu/view-part/?ref=snap; Package: 1608 Susumu; Value: *; Check_prices: https://www.snapeda.com/parts/RR0816P-222-D/Susumu/view-part/?ref=eda
footprint RESC1608X50N
pins: 1, 2

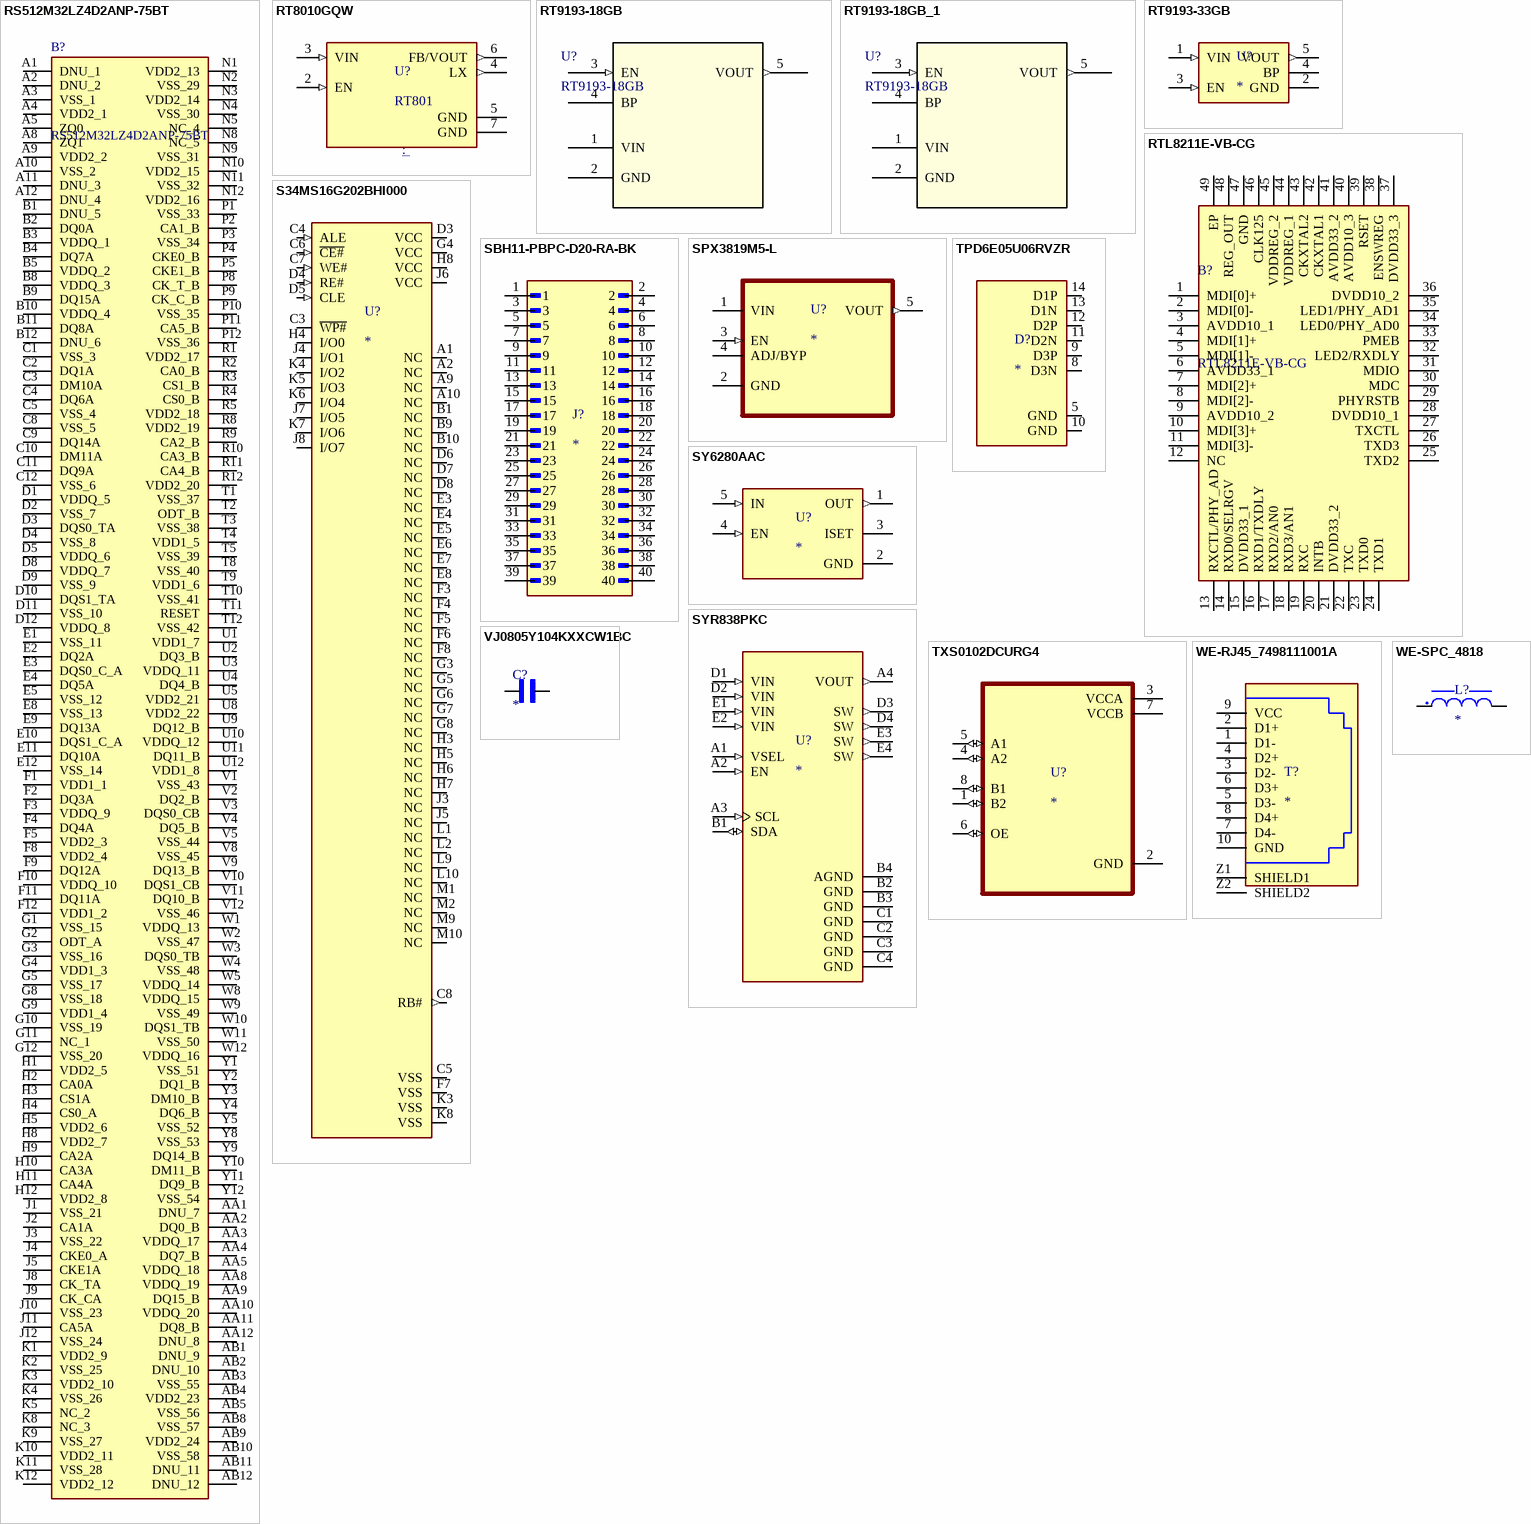
[diagram p5: symbols RS512M32LZ4D2ANP-75BT to WE-SPC_4818]

## RS512M32LZ4D2ANP-75BT
designator B?
BGA-200 New Arrivals ROHS; Manufacturer_Name: Rayson; Geometry.Height: 1mm; Manufacturer_Part_Number: RS512M32LZ4D2ANP-75BT; Mouser Part Number: *; Mouser Price/Stock: *; Arrow Part Number: *; Arrow Price/Stock: *; Datasheet Link: https://www.szrayson.com/uploadfiles/2020/05/20200519174828010.pdf
footprint BGA200C65P12X22_1000X1500X100
pins: A1 DNU_1, A2 DNU_2, A3 VSS_1, A4 VDD2_1, A5 ZQ0, A8 ZQ1, A9 VDD2_2, A10 VSS_2, A11 DNU_3, A12 DNU_4, AA1 DNU_7, AA2 DQ0_B, AA3 VDDQ_17, AA4 DQ7_B, AA5 VDDQ_18, AA8 VDDQ_19, AA9 DQ15_B, AA10 VDDQ_20, AA11 DQ8_B, AA12 DNU_8, AB1 DNU_9, AB2 DNU_10, AB3 VSS_55, AB4 VDD2_23, AB5 VSS_56, AB8 VSS_57, AB9 VDD2_24, AB10 VSS_58, AB11 DNU_11, AB12 DNU_12, B1 DNU_5, B2 DQ0A, B3 VDDQ_1, B4 DQ7A, B5 VDDQ_2, B8 VDDQ_3, B9 DQ15A, B10 VDDQ_4, B11 DQ8A, B12 DNU_6, C1 VSS_3, C2 DQ1A, C3 DM10A, C4 DQ6A, C5 VSS_4, C8 VSS_5, C9 DQ14A, C10 DM11A, C11 DQ9A, C12 VSS_6, D1 VDDQ_5, D2 VSS_7, D3 DQS0_TA, D4 VSS_8, D5 VDDQ_6, D8 VDDQ_7, D9 VSS_9, D10 DQS1_TA, D11 VSS_10, D12 VDDQ_8, E1 VSS_11, E2 DQ2A, E3 DQS0_C_A, E4 DQ5A, E5 VSS_12, E8 VSS_13, E9 DQ13A, E10 DQS1_C_A, E11 DQ10A, E12 VSS_14, F1 VDD1_1, F2 DQ3A, F3 VDDQ_9, F4 DQ4A, F5 VDD2_3, F8 VDD2_4, F9 DQ12A, F10 VDDQ_10, F11 DQ11A, F12 VDD1_2, G1 VSS_15, G2 ODT_A, G3 VSS_16, G4 VDD1_3, G5 VSS_17, G8 VSS_18, G9 VDD1_4, G10 VSS_19, G11 NC_1, G12 VSS_20, H1 VDD2_5, H2 CA0A, H3 CS1A, H4 CS0_A, H5 VDD2_6, H8 VDD2_7, H9 CA2A, H10 CA3A, H11 CA4A, H12 VDD2_8, J1 VSS_21, J2 CA1A, J3 VSS_22, J4 CKE0_A, J5 CKE1A, J8 CK_TA, J9 CK_CA, J10 VSS_23, J11 CA5A, J12 VSS_24, K1 VDD2_9, K2 VSS_25, K3 VDD2_10, K4 VSS_26, K5 NC_2, K8 NC_3, K9 VSS_27, K10 VDD2_11, K11 VSS_28, K12 VDD2_12, N1 VDD2_13, N2 VSS_29, N3 VDD2_14, N4 VSS_30, N5 NC_4, N8 NC_5, N9 VSS_31, N10 VDD2_15, N11 VSS_32, N12 VDD2_16, P1 VSS_33, P2 CA1_B, P3 VSS_34, P4 CKE0_B, P5 CKE1_B, P8 CK_T_B, P9 CK_C_B, P10 VSS_35, P11 CA5_B, P12 VSS_36, R1 VDD2_17, R2 CA0_B, R3 CS1_B, R4 CS0_B, R5 VDD2_18, R8 VDD2_19, R9 CA2_B, R10 CA3_B, R11 CA4_B, R12 VDD2_20, T1 VSS_37, T2 ODT_B, T3 VSS_38, T4 VDD1_5, T5 VSS_39, T8 VSS_40, T9 VDD1_6, T10 VSS_41, T11 RESET, T12 VSS_42, U1 VDD1_7, U2 DQ3_B, U3 VDDQ_11, U4 DQ4_B, U5 VDD2_21, U8 VDD2_22, U9 DQ12_B, U10 VDDQ_12, U11 DQ11_B, U12 VDD1_8, V1 VSS_43, V2 DQ2_B, V3 DQS0_CB, V4 DQ5_B, V5 VSS_44, V8 VSS_45, V9 DQ13_B, V10 DQS1_CB, V11 DQ10_B, V12 VSS_46, W1 VDDQ_13, W2 VSS_47, W3 DQS0_TB, W4 VSS_48, W5 VDDQ_14, W8 VDDQ_15, W9 VSS_49, W10 DQS1_TB, W11 VSS_50, W12 VDDQ_16, Y1 VSS_51, Y2 DQ1_B, Y3 DM10_B, Y4 DQ6_B, Y5 VSS_52, Y8 VSS_53, Y9 DQ14_B, Y10 DM11_B, Y11 DQ9_B, Y12 VSS_54

## RT8010GQW
designator U?, comment RT801
Buck Switching Regulator IC Positive Adjustable 0.6V 1 Output 1A 6-WDFN Exposed Pad; MP: RT8010GQW; MF: Richtek USA; SnapEDA_Link: https://www.snapeda.com/parts/RT8010GQW/Richtek%20USA%20Inc./view-part/641358/?ref=snap; Value: *; Package: WDFN-6 Richtek
footprint SON65P200X200X80-7N
pins: 2 EN (in), 3 VIN (in), 4 LX (out), 5 GND (power), 6 FB/VOUT (out), 7 GND (power)

## RT9193-18GB
designator U?
Description; Manufacturer_Name: Richtek Technology; Copyright: Copyright (C) 2026 Ultra Librarian. All rights reserved.; Manufacturer_Part_Number: RT9193-18GB; RefDes: RefDes; Type: Type
footprint SOT-23-5_RIT
pins: 1 VIN (power), 2 GND (power), 3 EN (in), 4 BP, 5 VOUT (out)